# Altium schematic symbol library Common.SchLib: 103 symbols
Pins are listed as number, name and electrical type; pins without a type are passive.

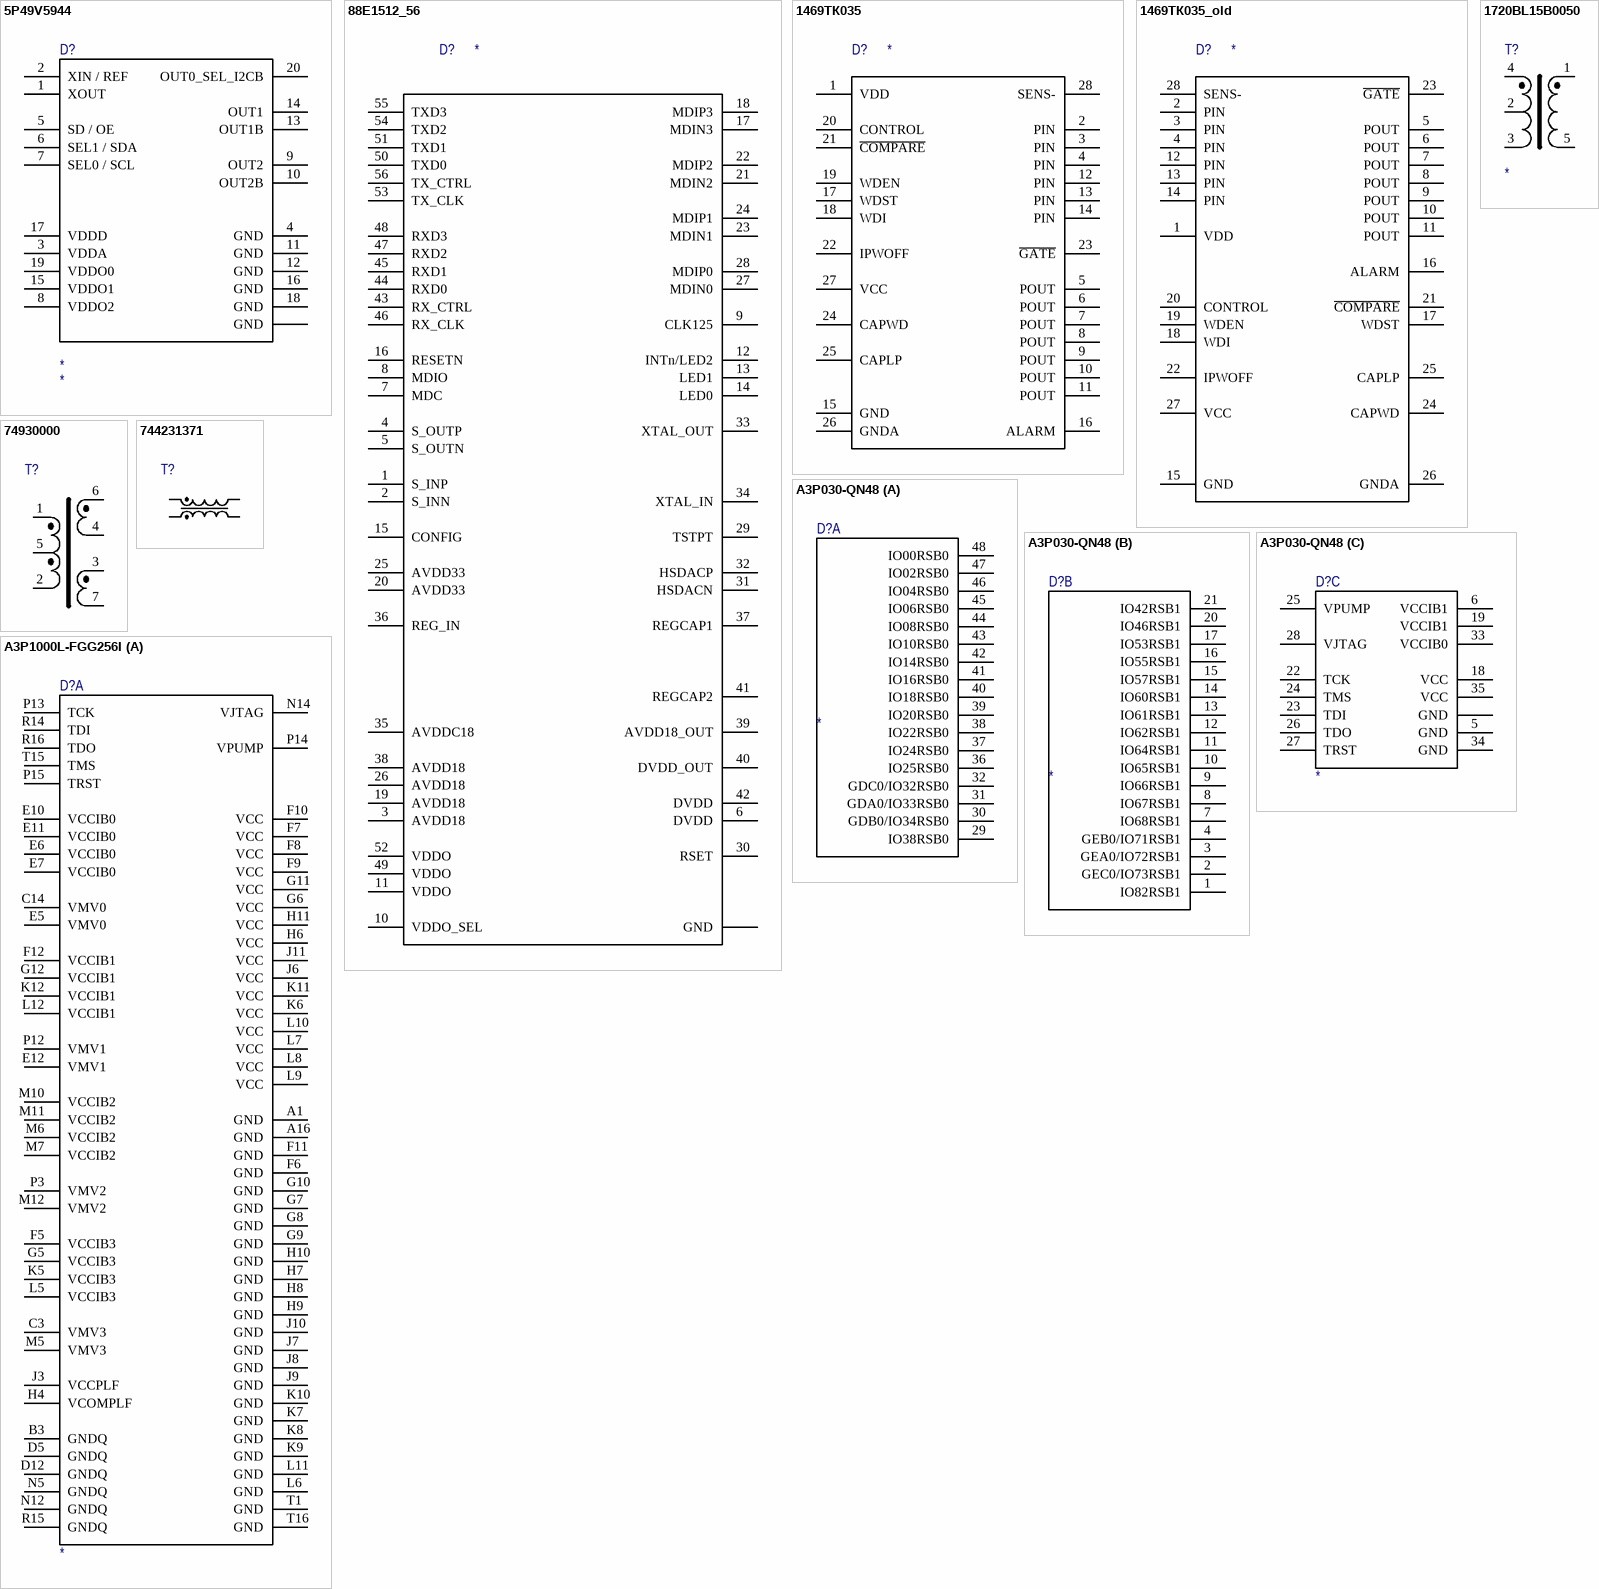
[diagram p0: symbols 5P49V5944 to A3P1000L-FGG256I]

## 5P49V5944
designator D?
Интегральная микросхема; Part Number: *; Manufacturer: *
footprint QFN-20-3x3
pins: 1 XOUT, 2 XIN / REF, 3 VDDA, 4 GND, 5 SD / OE, 6 SEL1 / SDA, 7 SEL0 / SCL, 8 VDDO2, 9 OUT2, 10 OUT2B, 11 GND, 12 GND, 13 OUT1B, 14 OUT1, 15 VDDO1, 16 GND, 17 VDDD, 18 GND, 19 VDDO0, 20 OUT0_SEL_I2CB, PAD GND

## 88E1512_56
designator D?
Интегральная микросхема; Manufacturer: *; Part Number: *
pins: 1 S_INP, 2 S_INN, 3 AVDD18, 4 S_OUTP, 5 S_OUTN, 6 DVDD, 7 MDC, 8 MDIO, 9 CLK125, 10 VDDO_SEL, 11 VDDO, 12 INTn/LED2, 13 LED1, 14 LED0, 15 CONFIG, 16 RESETN, 17 MDIN3, 18 MDIP3, 19 AVDD18, 20 AVDD33, 21 MDIN2, 22 MDIP2, 23 MDIN1, 24 MDIP1, 25 AVDD33, 26 AVDD18, 27 MDIN0, 28 MDIP0, 29 TSTPT, 30 RSET, 31 HSDACN, 32 HSDACP, 33 XTAL_OUT, 34 XTAL_IN, 35 AVDDC18, 36 REG_IN, 37 REGCAP1, 38 AVDD18, 39 AVDD18_OUT, 40 DVDD_OUT, 41 REGCAP2, 42 DVDD, 43 RX_CTRL, 44 RXD0, 45 RXD1, 46 RX_CLK, 47 RXD2, 48 RXD3, 49 VDDO, 50 TXD0, 51 TXD1, 52 VDDO, 53 TX_CLK, 54 TXD2, 55 TXD3, 56 TX_CTRL, PAD GND

## 1469ТК035
designator D?
Интегральная микросхема; Manufacturer: *; Part Number: *
pins: 1 VDD, 2 PIN, 3 PIN, 4 PIN, 5 POUT, 6 POUT, 7 POUT, 8 POUT, 9 POUT, 10 POUT, 11 POUT, 12 PIN, 13 PIN, 14 PIN, 15 GND, 16 ALARM, 17 WDST, 18 WDI, 19 WDEN, 20 CONTROL, 21 ~{COMPARE}, 22 IPWOFF, 23 ~{GATE}, 24 CAPWD, 25 CAPLP, 26 GNDA, 27 VCC, 28 SENS-

## 1469ТК035_old
designator D?
Интегральная микросхема; Manufacturer: *; Part Number: *
pins: 1 VDD, 2 PIN, 3 PIN, 4 PIN, 5 POUT, 6 POUT, 7 POUT, 8 POUT, 9 POUT, 10 POUT, 11 POUT, 12 PIN, 13 PIN, 14 PIN, 15 GND, 16 ALARM, 17 WDST, 18 WDI, 19 WDEN, 20 CONTROL, 21 ~{COMPARE}, 22 IPWOFF, 23 ~{GATE}, 24 CAPWD, 25 CAPLP, 26 GNDA, 27 VCC, 28 SENS-

## 1720BL15B0050
designator T?
Трансформатор согласующий, WE ethernet; Manufacturer: *; Part Number: *
pins: 1, 2, 3, 4, 5

## 74930000
designator T?  (value not drawn)
Трансформатор согласующий, WE ethernet; Part Number: *; Manufacturer: *
pins: 1, 2, 3, 4, 5, 6, 7

## 744231371
designator T?  (value not drawn)
Трансформатор-синфазный фильтр, WE; Part Number: *; Manufacturer: *
pins: 1, 2, 3, 4

## A3P030-QN48
designator D?
Интегральная микросхема; Manufacturer: *; Part Number: *
part A pins: 29 IO38RSB0, 30 GDB0/IO34RSB0, 31 GDA0/IO33RSB0, 32 GDC0/IO32RSB0, 36 IO25RSB0, 37 IO24RSB0, 38 IO22RSB0, 39 IO20RSB0, 40 IO18RSB0, 41 IO16RSB0, 42 IO14RSB0, 43 IO10RSB0, 44 IO08RSB0, 45 IO06RSB0, 46 IO04RSB0, 47 IO02RSB0, 48 IO00RSB0
part B pins: 1 IO82RSB1, 2 GEC0/IO73RSB1, 3 GEA0/IO72RSB1, 4 GEB0/IO71RSB1, 7 IO68RSB1, 8 IO67RSB1, 9 IO66RSB1, 10 IO65RSB1, 11 IO64RSB1, 12 IO62RSB1, 13 IO61RSB1, 14 IO60RSB1, 15 IO57RSB1, 16 IO55RSB1, 17 IO53RSB1, 20 IO46RSB1, 21 IO42RSB1
part C pins: 5 GND, 6 VCCIB1, 18 VCC, 19 VCCIB1, 22 TCK, 23 TDI, 24 TMS, 25 VPUMP, 26 TDO, 27 TRST, 28 VJTAG, 33 VCCIB0, 34 GND, 35 VCC, PAD GND

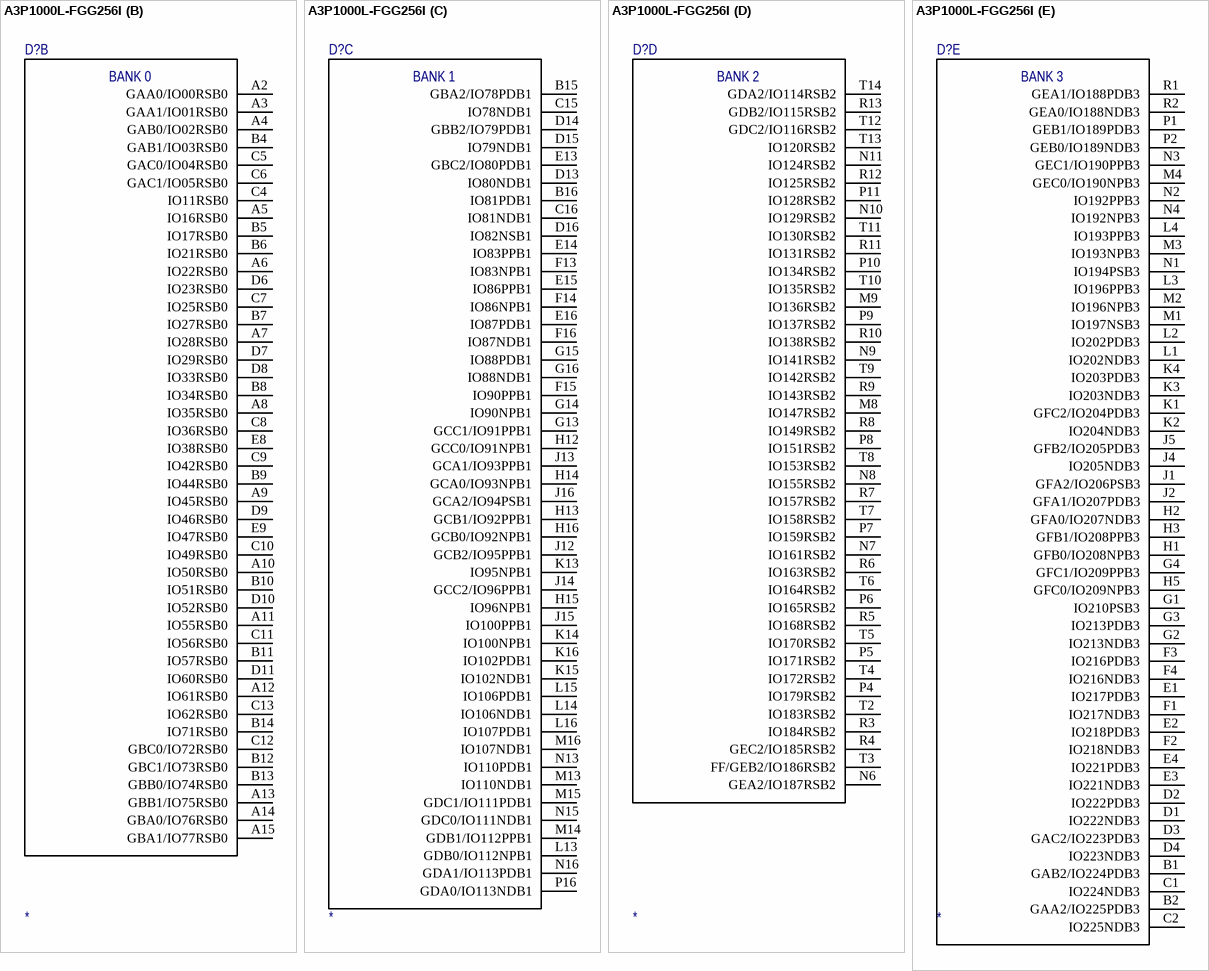
[diagram p1: symbol A3P1000L-FGG256I]

## A3P1000L-FGG256I
designator D?
Интегральная микросхема (ПЛИС); Manufacturer: *; Part Number: *
part A pins: A1 GND, A16 GND, B3 GNDQ, C3 VMV3, C14 VMV0, D5 GNDQ, D12 GNDQ, E5 VMV0, E6 VCCIB0, E7 VCCIB0, E10 VCCIB0, E11 VCCIB0, E12 VMV1, F5 VCCIB3, F6 GND, F7 VCC, F8 VCC, F9 VCC, F10 VCC, F11 GND, F12 VCCIB1, G5 VCCIB3, G6 VCC, G7 GND, G8 GND, G9 GND, G10 GND, G11 VCC, G12 VCCIB1, H4 VCOMPLF, H6 VCC, H7 GND, H8 GND, H9 GND, H10 GND, H11 VCC, J3 VCCPLF, J6 VCC, J7 GND, J8 GND, J9 GND, J10 GND, J11 VCC, K5 VCCIB3, K6 VCC, K7 GND, K8 GND, K9 GND, K10 GND, K11 VCC, K12 VCCIB1, L5 VCCIB3, L6 GND, L7 VCC, L8 VCC, L9 VCC, L10 VCC, L11 GND, L12 VCCIB1, M5 VMV3, M6 VCCIB2, M7 VCCIB2, M10 VCCIB2, M11 VCCIB2, M12 VMV2, N5 GNDQ, N12 GNDQ, N14 VJTAG, P3 VMV2, P12 VMV1, P13 TCK, P14 VPUMP, P15 TRST, R14 TDI, R15 GNDQ, R16 TDO, T1 GND, T15 TMS, T16 GND
part B pins: A2 GAA0/IO00RSB0, A3 GAA1/IO01RSB0, A4 GAB0/IO02RSB0, A5 IO16RSB0, A6 IO22RSB0, A7 IO28RSB0, A8 IO35RSB0, A9 IO45RSB0, A10 IO50RSB0, A11 IO55RSB0, A12 IO61RSB0, A13 GBB1/IO75RSB0, A14 GBA0/IO76RSB0, A15 GBA1/IO77RSB0, B4 GAB1/IO03RSB0, B5 IO17RSB0, B6 IO21RSB0, B7 IO27RSB0, B8 IO34RSB0, B9 IO44RSB0, B10 IO51RSB0, B11 IO57RSB0, B12 GBC1/IO73RSB0, B13 GBB0/IO74RSB0, B14 IO71RSB0, C4 IO11RSB0, C5 GAC0/IO04RSB0, C6 GAC1/IO05RSB0, C7 IO25RSB0, C8 IO36RSB0, C9 IO42RSB0, C10 IO49RSB0, C11 IO56RSB0, C12 GBC0/IO72RSB0, C13 IO62RSB0, D6 IO23RSB0, D7 IO29RSB0, D8 IO33RSB0, D9 IO46RSB0, D10 IO52RSB0, D11 IO60RSB0, E8 IO38RSB0, E9 IO47RSB0
part C pins: B15 GBA2/IO78PDB1, B16 IO81PDB1, C15 IO78NDB1, C16 IO81NDB1, D13 IO80NDB1, D14 GBB2/IO79PDB1, D15 IO79NDB1, D16 IO82NSB1, E13 GBC2/IO80PDB1, E14 IO83PPB1, E15 IO86PPB1, E16 IO87PDB1, F13 IO83NPB1, F14 IO86NPB1, F15 IO90PPB1, F16 IO87NDB1, G13 GCC1/IO91PPB1, G14 IO90NPB1, G15 IO88PDB1, G16 IO88NDB1, H12 GCC0/IO91NPB1, H13 GCB1/IO92PPB1, H14 GCA0/IO93NPB1, H15 IO96NPB1, H16 GCB0/IO92NPB1, J12 GCB2/IO95PPB1, J13 GCA1/IO93PPB1, J14 GCC2/IO96PPB1, J15 IO100PPB1, J16 GCA2/IO94PSB1, K13 IO95NPB1, K14 IO100NPB1, K15 IO102NDB1, K16 IO102PDB1, L13 GDB0/IO112NPB1, L14 IO106NDB1, L15 IO106PDB1, L16 IO107PDB1, M13 IO110NDB1, M14 GDB1/IO112PPB1, M15 GDC1/IO111PDB1, M16 IO107NDB1, N13 IO110PDB1, N15 GDC0/IO111NDB1, N16 GDA1/IO113PDB1, P16 GDA0/IO113NDB1
part D pins: M8 IO147RSB2, M9 IO136RSB2, N6 GEA2/IO187RSB2, N7 IO161RSB2, N8 IO155RSB2, N9 IO141RSB2, N10 IO129RSB2, N11 IO124RSB2, P4 IO179RSB2, P5 IO171RSB2, P6 IO165RSB2, P7 IO159RSB2, P8 IO151RSB2, P9 IO137RSB2, P10 IO134RSB2, P11 IO128RSB2, R3 IO184RSB2, R4 GEC2/IO185RSB2, R5 IO168RSB2, R6 IO163RSB2, R7 IO157RSB2, R8 IO149RSB2, R9 IO143RSB2, R10 IO138RSB2, R11 IO131RSB2, R12 IO125RSB2, R13 GDB2/IO115RSB2, T2 IO183RSB2, T3 FF/GEB2/IO186RSB2, T4 IO172RSB2, T5 IO170RSB2, T6 IO164RSB2, T7 IO158RSB2, T8 IO153RSB2, T9 IO142RSB2, T10 IO135RSB2, T11 IO130RSB2, T12 GDC2/IO116RSB2, T13 IO120RSB2, T14 GDA2/IO114RSB2
part E pins: B1 GAB2/IO224PDB3, B2 GAA2/IO225PDB3, C1 IO224NDB3, C2 IO225NDB3, D1 IO222NDB3, D2 IO222PDB3, D3 GAC2/IO223PDB3, D4 IO223NDB3, E1 IO217PDB3, E2 IO218PDB3, E3 IO221NDB3, E4 IO221PDB3, F1 IO217NDB3, F2 IO218NDB3, F3 IO216PDB3, F4 IO216NDB3, G1 IO210PSB3, G2 IO213NDB3, G3 IO213PDB3, G4 GFC1/IO209PPB3, H1 GFB0/IO208NPB3, H2 GFA0/IO207NDB3, H3 GFB1/IO208PPB3, H5 GFC0/IO209NPB3, J1 GFA2/IO206PSB3, J2 GFA1/IO207PDB3, J4 IO205NDB3, J5 GFB2/IO205PDB3, K1 GFC2/IO204PDB3, K2 IO204NDB3, K3 IO203NDB3, K4 IO203PDB3, L1 IO202NDB3, L2 IO202PDB3, L3 IO196PPB3, L4 IO193PPB3, M1 IO197NSB3, M2 IO196NPB3, M3 IO193NPB3, M4 GEC0/IO190NPB3, N1 IO194PSB3, N2 IO192PPB3, N3 GEC1/IO190PPB3, N4 IO192NPB3, P1 GEB1/IO189PDB3, P2 GEB0/IO189NDB3, R1 GEA1/IO188PDB3, R2 GEA0/IO188NDB3
part B text: BANK 0
part C text: BANK 1
part D text: BANK 2
part E text: BANK 3

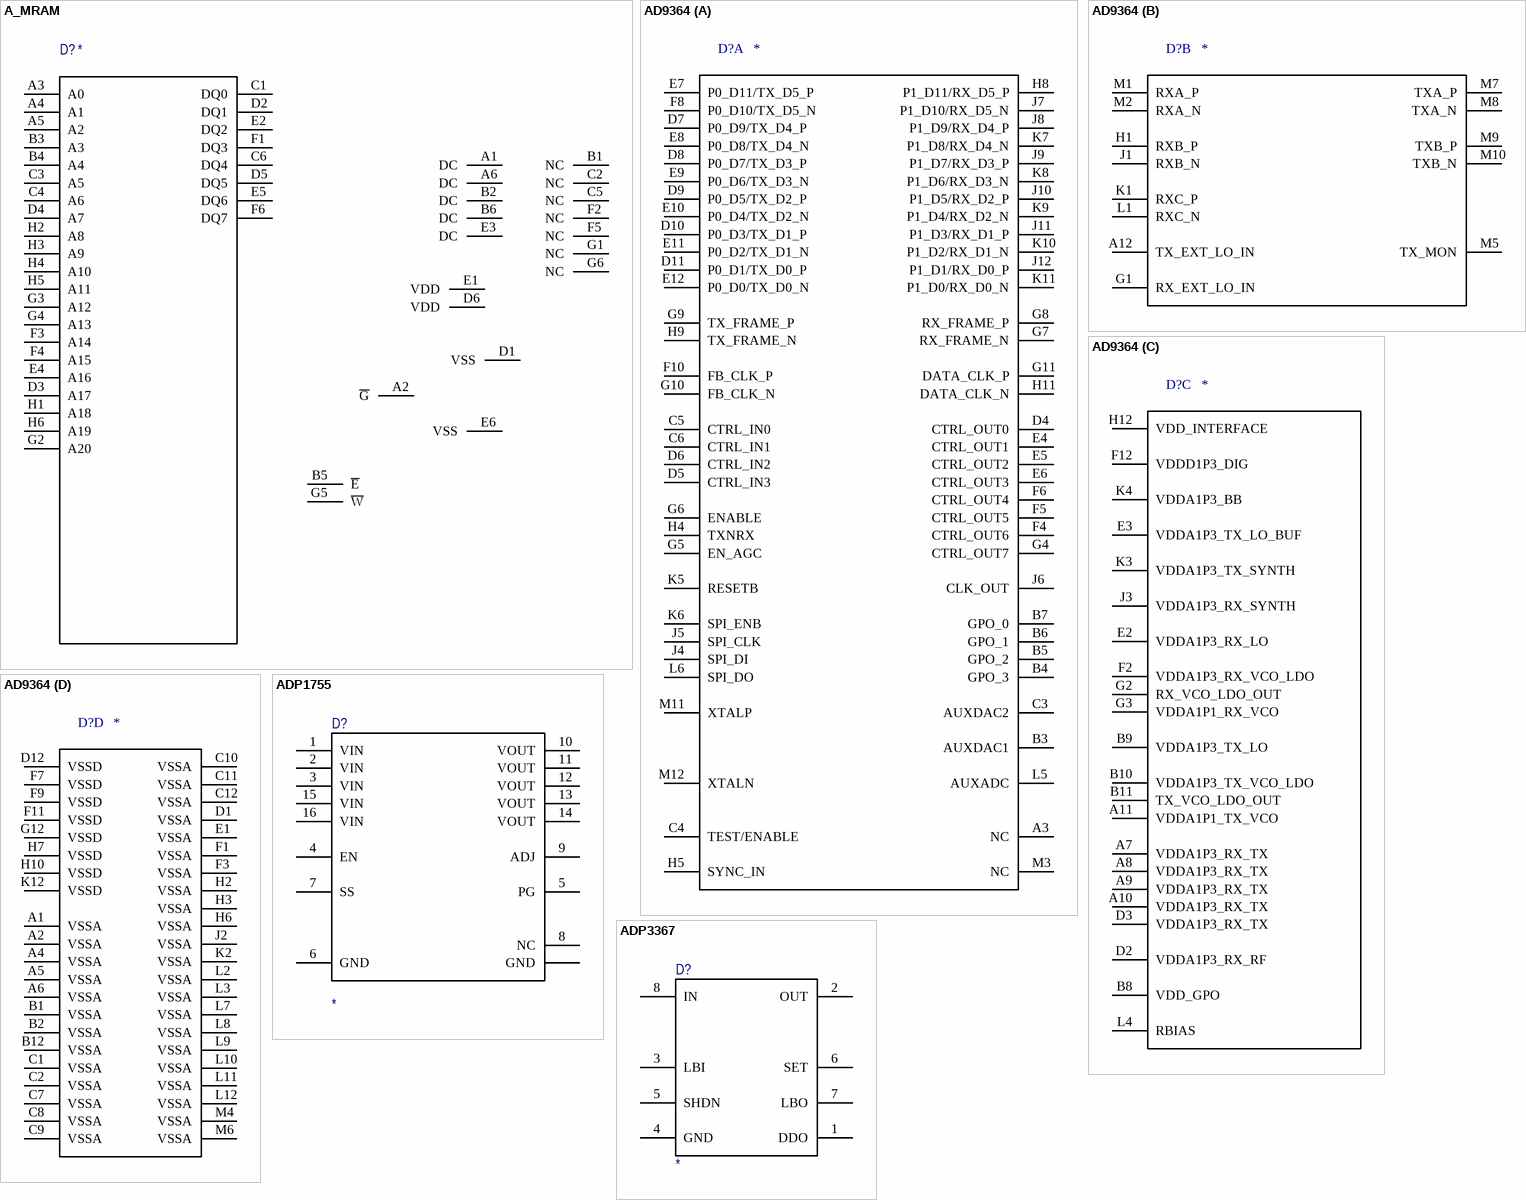
[diagram p2: symbols A_MRAM to ADP3367]

## A_MRAM
designator D?
Конденсатор; Manufacturer: *; Part Number: *
pins: A1 DC, A2 ~{G}, A3 A0, A4 A1, A5 A2, A6 DC, B1 NC, B2 DC, B3 A3, B4 A4, B5 ~{E}, B6 DC, C1 DQ0, C2 NC, C3 A5, C4 A6, C5 NC, C6 DQ4, D1 VSS, D2 DQ1, D3 A17, D4 A7, D5 DQ5, D6 VDD, E1 VDD, E2 DQ2, E3 DC, E4 A16, E5 DQ6, E6 VSS, F1 DQ3, F2 NC, F3 A14, F4 A15, F5 NC, F6 DQ7, G1 NC, G2 A20, G3 A12, G4 A13, G5 ~{W}, G6 NC, H1 A18, H2 A8, H3 A9, H4 A10, H5 A11, H6 A19

## AD9364
designator D?
part A pins: A3 NC, B3 AUXDAC1, B4 GPO_3, B5 GPO_2, B6 GPO_1, B7 GPO_0, C3 AUXDAC2, C4 TEST/ENABLE, C5 CTRL_IN0, C6 CTRL_IN1, D4 CTRL_OUT0, D5 CTRL_IN3, D6 CTRL_IN2, D7 P0_D9/TX_D4_P, D8 P0_D7/TX_D3_P, D9 P0_D5/TX_D2_P, D10 P0_D3/TX_D1_P, D11 P0_D1/TX_D0_P, E4 CTRL_OUT1, E5 CTRL_OUT2, E6 CTRL_OUT3, E7 P0_D11/TX_D5_P, E8 P0_D8/TX_D4_N, E9 P0_D6/TX_D3_N, E10 P0_D4/TX_D2_N, E11 P0_D2/TX_D1_N, E12 P0_D0/TX_D0_N, F4 CTRL_OUT6, F5 CTRL_OUT5, F6 CTRL_OUT4, F8 P0_D10/TX_D5_N, F10 FB_CLK_P, G4 CTRL_OUT7, G5 EN_AGC, G6 ENABLE, G7 RX_FRAME_N, G8 RX_FRAME_P, G9 TX_FRAME_P, G10 FB_CLK_N, G11 DATA_CLK_P, H4 TXNRX, H5 SYNC_IN, H8 P1_D11/RX_D5_P, H9 TX_FRAME_N, H11 DATA_CLK_N, J4 SPI_DI, J5 SPI_CLK, J6 CLK_OUT, J7 P1_D10/RX_D5_N, J8 P1_D9/RX_D4_P, J9 P1_D7/RX_D3_P, J10 P1_D5/RX_D2_P, J11 P1_D3/RX_D1_P, J12 P1_D1/RX_D0_P, K5 RESETB, K6 SPI_ENB, K7 P1_D8/RX_D4_N, K8 P1_D6/RX_D3_N, K9 P1_D4/RX_D2_N, K10 P1_D2/RX_D1_N, K11 P1_D0/RX_D0_N, L5 AUXADC, L6 SPI_DO, M3 NC, M11 XTALP, M12 XTALN
part B pins: A12 TX_EXT_LO_IN, G1 RX_EXT_LO_IN, H1 RXB_P, J1 RXB_N, K1 RXC_P, L1 RXC_N, M1 RXA_P, M2 RXA_N, M5 TX_MON, M7 TXA_P, M8 TXA_N, M9 TXB_P, M10 TXB_N
part C pins: A7 VDDA1P3_RX_TX, A8 VDDA1P3_RX_TX, A9 VDDA1P3_RX_TX, A10 VDDA1P3_RX_TX, A11 VDDA1P1_TX_VCO, B8 VDD_GPO, B9 VDDA1P3_TX_LO, B10 VDDA1P3_TX_VCO_LDO, B11 TX_VCO_LDO_OUT, D2 VDDA1P3_RX_RF, D3 VDDA1P3_RX_TX, E2 VDDA1P3_RX_LO, E3 VDDA1P3_TX_LO_BUF, F2 VDDA1P3_RX_VCO_LDO, F12 VDDD1P3_DIG, G2 RX_VCO_LDO_OUT, G3 VDDA1P1_RX_VCO, H12 VDD_INTERFACE, J3 VDDA1P3_RX_SYNTH, K3 VDDA1P3_TX_SYNTH, K4 VDDA1P3_BB, L4 RBIAS
part D pins: A1 VSSA, A2 VSSA, A4 VSSA, A5 VSSA, A6 VSSA, B1 VSSA, B2 VSSA, B12 VSSA, C1 VSSA, C2 VSSA, C7 VSSA, C8 VSSA, C9 VSSA, C10 VSSA, C11 VSSA, C12 VSSA, D1 VSSA, D12 VSSD, E1 VSSA, F1 VSSA, F3 VSSA, F7 VSSD, F9 VSSD, F11 VSSD, G12 VSSD, H2 VSSA, H3 VSSA, H6 VSSA, H7 VSSD, H10 VSSD, J2 VSSA, K2 VSSA, K12 VSSD, L2 VSSA, L3 VSSA, L7 VSSA, L8 VSSA, L9 VSSA, L10 VSSA, L11 VSSA, L12 VSSA, M4 VSSA, M6 VSSA

## ADP1755
designator D?
Интегральная микросхема; Manufacturer: *; Part Number: *
footprint QFN-20-3x3
pins: 1 VIN, 2 VIN, 3 VIN, 4 EN, 5 PG, 6 GND, 7 SS, 8 NC, 9 ADJ, 10 VOUT, 11 VOUT, 12 VOUT, 13 VOUT, 14 VOUT, 15 VIN, 16 VIN, PAD GND

## ADP3367
designator D?
Интегральная микросхема; Manufacturer: *; Part Number: *
pins: 1 DDO, 2 OUT, 3 LBI, 4 GND, 5 SHDN, 6 SET, 7 LBO, 8 IN

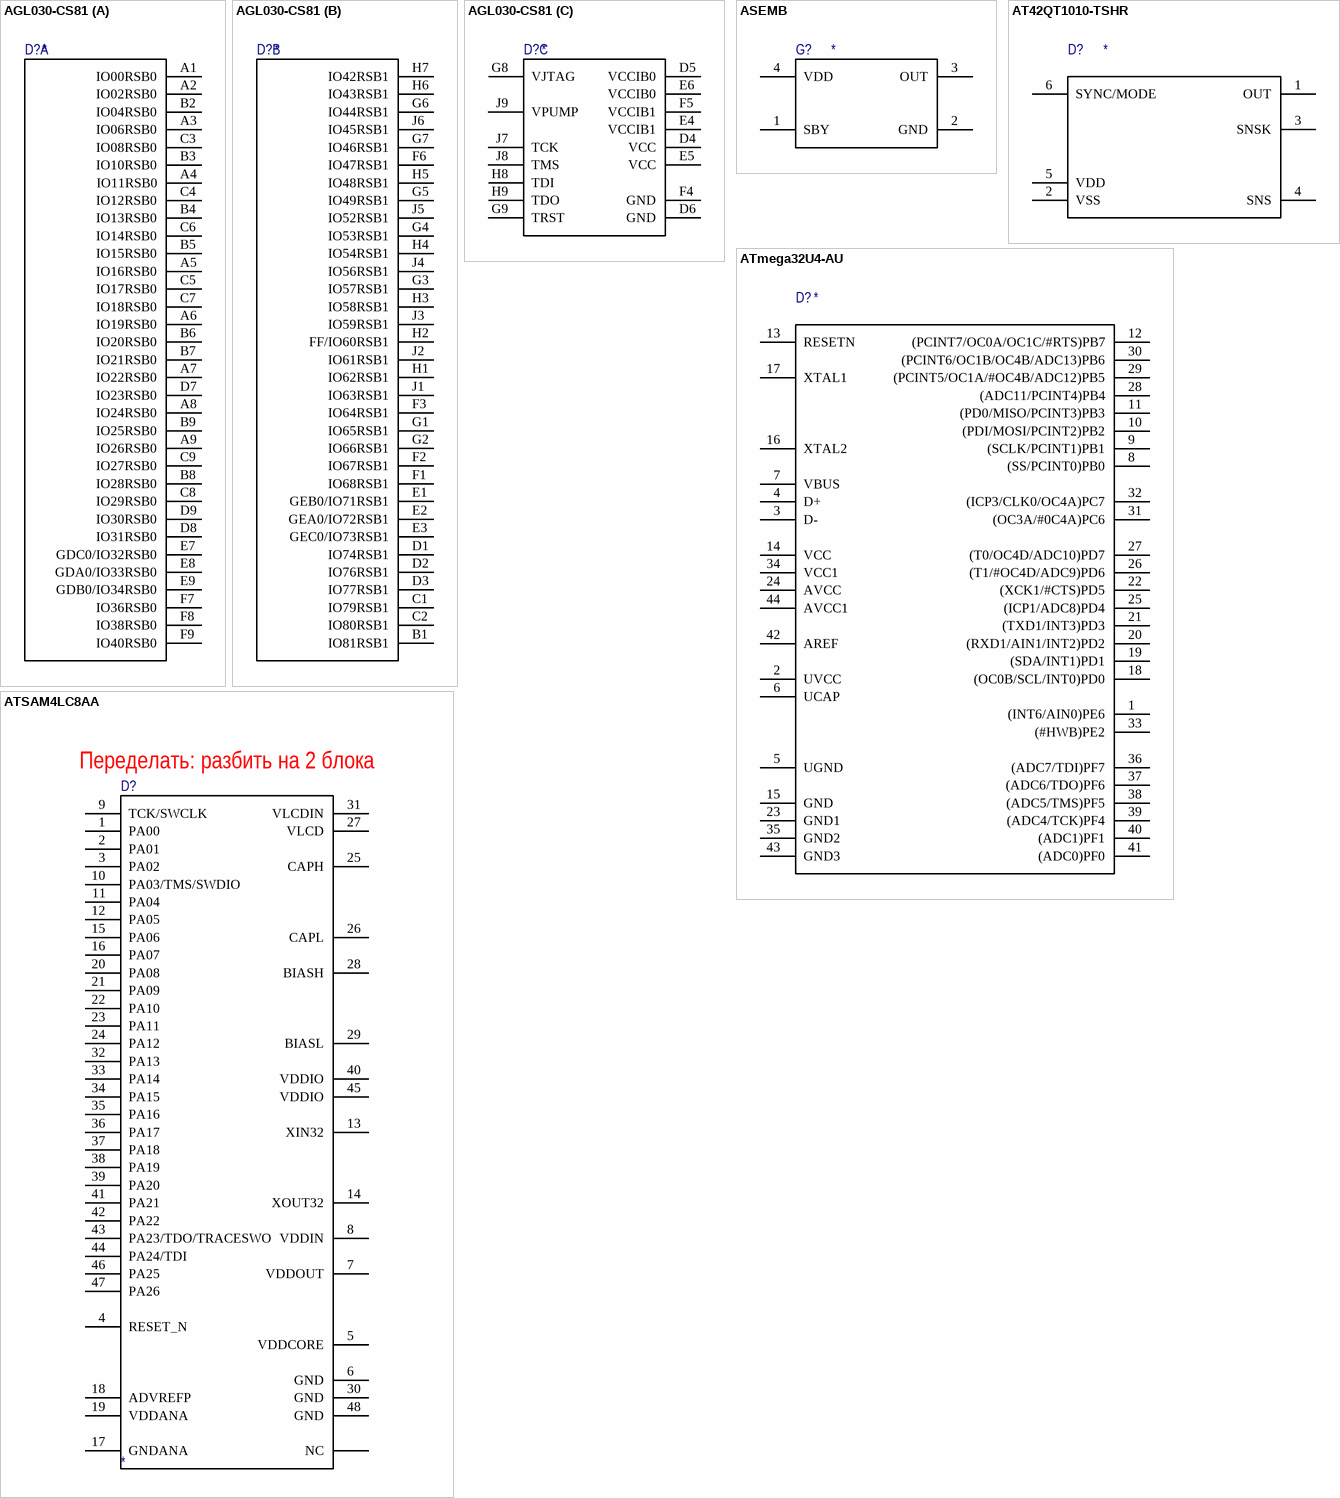
[diagram p3: symbols AGL030-CS81 to ATSAM4LC8AA]

## AGL030-CS81
designator D?
Интегральная микросхема; Manufacturer: *; Part Number: *
part A pins: A1 IO00RSB0, A2 IO02RSB0, A3 IO06RSB0, A4 IO11RSB0, A5 IO16RSB0, A6 IO19RSB0, A7 IO22RSB0, A8 IO24RSB0, A9 IO26RSB0, B2 IO04RSB0, B3 IO10RSB0, B4 IO13RSB0, B5 IO15RSB0, B6 IO20RSB0, B7 IO21RSB0, B8 IO28RSB0, B9 IO25RSB0, C3 IO08RSB0, C4 IO12RSB0, C5 IO17RSB0, C6 IO14RSB0, C7 IO18RSB0, C8 IO29RSB0, C9 IO27RSB0, D7 IO23RSB0, D8 IO31RSB0, D9 IO30RSB0, E7 GDC0/IO32RSB0, E8 GDA0/IO33RSB0, E9 GDB0/IO34RSB0, F7 IO36RSB0, F8 IO38RSB0, F9 IO40RSB0
part B pins: B1 IO81RSB1, C1 IO79RSB1, C2 IO80RSB1, D1 IO74RSB1, D2 IO76RSB1, D3 IO77RSB1, E1 GEB0/IO71RSB1, E2 GEA0/IO72RSB1, E3 GEC0/IO73RSB1, F1 IO68RSB1, F2 IO67RSB1, F3 IO64RSB1, F6 IO47RSB1, G1 IO65RSB1, G2 IO66RSB1, G3 IO57RSB1, G4 IO53RSB1, G5 IO49RSB1, G6 IO44RSB1, G7 IO46RSB1, H1 IO62RSB1, H2 FF/IO60RSB1, H3 IO58RSB1, H4 IO54RSB1, H5 IO48RSB1, H6 IO43RSB1, H7 IO42RSB1, J1 IO63RSB1, J2 IO61RSB1, J3 IO59RSB1, J4 IO56RSB1, J5 IO52RSB1, J6 IO45RSB1
part C pins: D4 VCC, D5 VCCIB0, D6 GND, E4 VCCIB1, E5 VCC, E6 VCCIB0, F4 GND, F5 VCCIB1, G8 VJTAG, G9 TRST, H8 TDI, H9 TDO, J7 TCK, J8 TMS, J9 VPUMP

## ASEMB
designator G?
Manufacturer: *; Part Number: *
pins: 1 SBY, 2 GND, 3 OUT, 4 VDD

## AT42QT1010-TSHR
designator D?
Интегральная микросхема; Manufacturer: *; Part Number: *
pins: 1 OUT, 2 VSS, 3 SNSK, 4 SNS, 5 VDD, 6 SYNC/MODE

## ATmega32U4-AU
designator D?
Интегральная микросхема; Manufacturer: *; Part Number: *
pins: 1 (INT6/AIN0)PE6, 2 UVCC, 3 D-, 4 D+, 5 UGND, 6 UCAP, 7 VBUS, 8 (SS/PCINT0)PB0, 9 (SCLK/PCINT1)PB1, 10 (PDI/MOSI/PCINT2)PB2, 11 (PD0/MISO/PCINT3)PB3, 12 (PCINT7/OC0A/OC1C/#RTS)PB7, 13 RESETN, 14 VCC, 15 GND, 16 XTAL2, 17 XTAL1, 18 (OC0B/SCL/INT0)PD0, 19 (SDA/INT1)PD1, 20 (RXD1/AIN1/INT2)PD2, 21 (TXD1/INT3)PD3, 22 (XCK1/#CTS)PD5, 23 GND1, 24 AVCC, 25 (ICP1/ADC8)PD4, 26 (T1/#OC4D/ADC9)PD6, 27 (T0/OC4D/ADC10)PD7, 28 (ADC11/PCINT4)PB4, 29 (PCINT5/OC1A/#OC4B/ADC12)PB5, 30 (PCINT6/OC1B/OC4B/ADC13)PB6, 31 (OC3A/#0C4A)PC6, 32 (ICP3/CLK0/OC4A)PC7, 33 (#HWB)PE2, 34 VCC1, 35 GND2, 36 (ADC7/TDI)PF7, 37 (ADC6/TDO)PF6, 38 (ADC5/TMS)PF5, 39 (ADC4/TCK)PF4, 40 (ADC1)PF1, 41 (ADC0)PF0, 42 AREF, 43 GND3, 44 AVCC1

## ATSAM4LC8AA
designator D?
Интегральная микросхема; Manufacturer: *; Part Number: *
pins: 1 PA00, 2 PA01, 3 PA02, 4 RESET_N, 5 VDDCORE, 6 GND, 7 VDDOUT, 8 VDDIN, 9 TCK/SWCLK, 10 PA03/TMS/SWDIO, 11 PA04, 12 PA05, 13 XIN32, 14 XOUT32, 15 PA06, 16 PA07, 17 GNDANA, 18 ADVREFP, 19 VDDANA, 20 PA08, 21 PA09, 22 PA10, 23 PA11, 24 PA12, 25 CAPH, 26 CAPL, 27 VLCD, 28 BIASH, 29 BIASL, 30 GND, 31 VLCDIN, 32 PA13, 33 PA14, 34 PA15, 35 PA16, 36 PA17, 37 PA18, 38 PA19, 39 PA20, 40 VDDIO, 41 PA21, 42 PA22, 43 PA23/TDO/TRACESWO, 44 PA24/TDI, 45 VDDIO, 46 PA25, 47 PA26, 48 GND, PAD NC
text: Переделать: разбить на 2 блока

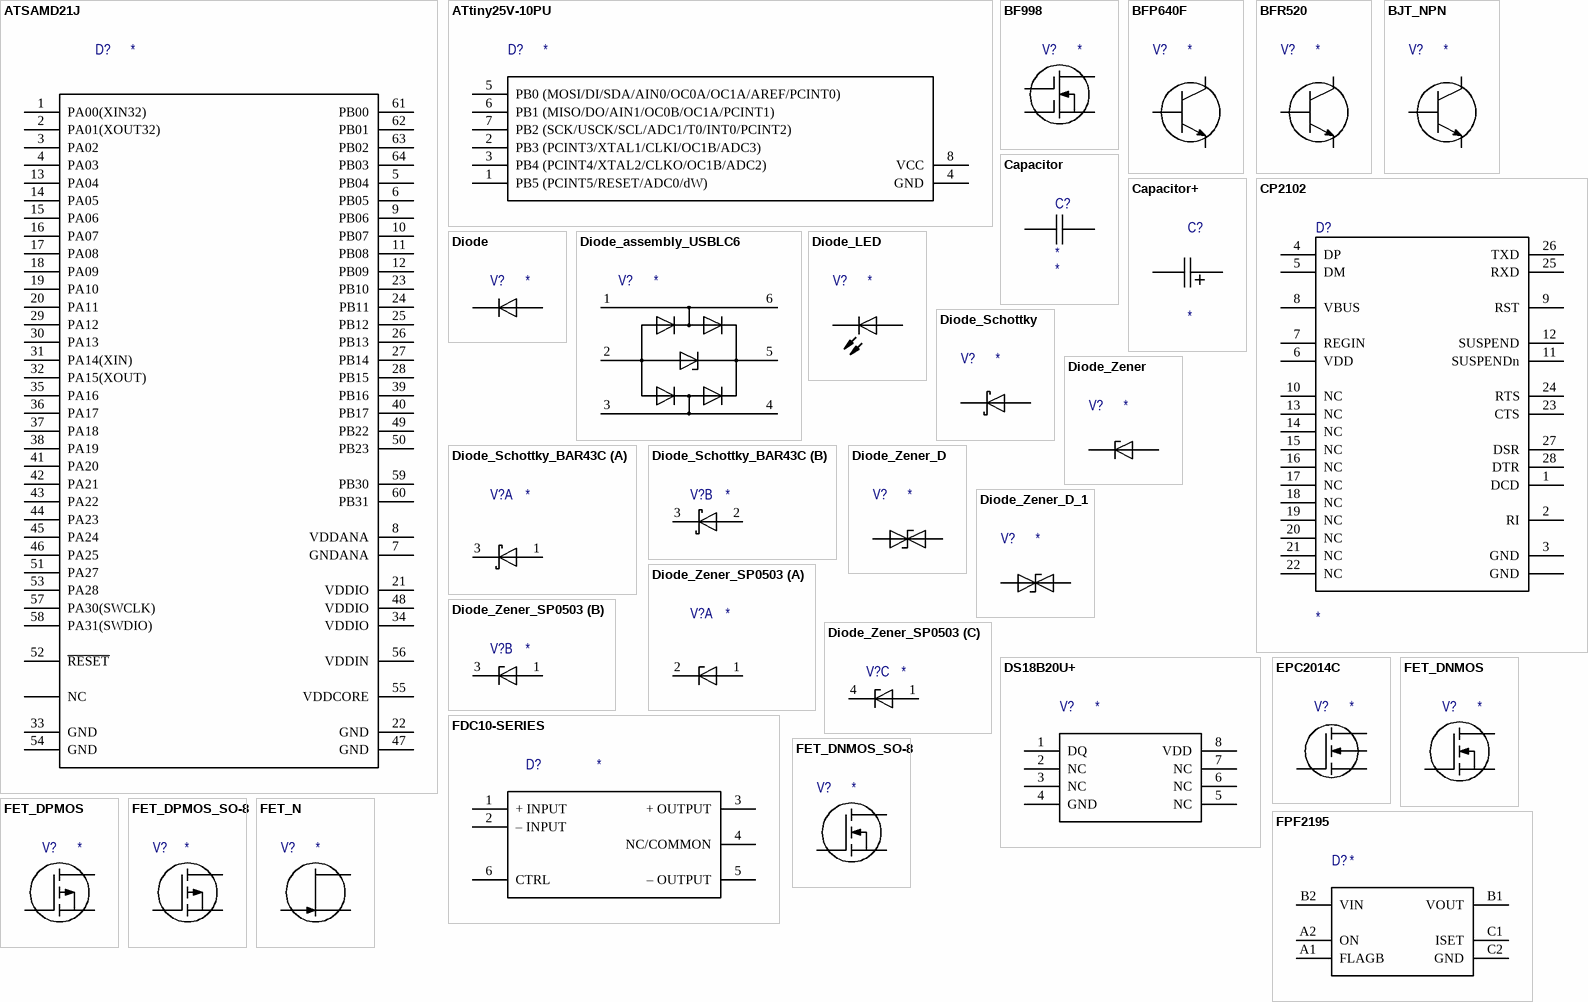
[diagram p4: symbols ATSAMD21J to FPF2195]

## ATSAMD21J
designator D?
Интегральная микросхема; Manufacturer: *; Part Number: *
pins: 1 PA00(XIN32), 2 PA01(XOUT32), 3 PA02, 4 PA03, 5 PB04, 6 PB05, 7 GNDANA, 8 VDDANA, 9 PB06, 10 PB07, 11 PB08, 12 PB09, 13 PA04, 14 PA05, 15 PA06, 16 PA07, 17 PA08, 18 PA09, 19 PA10, 20 PA11, 21 VDDIO, 22 GND, 23 PB10, 24 PB11, 25 PB12, 26 PB13, 27 PB14, 28 PB15, 29 PA12, 30 PA13, 31 PA14(XIN), 32 PA15(XOUT), 33 GND, 34 VDDIO, 35 PA16, 36 PA17, 37 PA18, 38 PA19, 39 PB16, 40 PB17, 41 PA20, 42 PA21, 43 PA22, 44 PA23, 45 PA24, 46 PA25, 47 GND, 48 VDDIO, 49 PB22, 50 PB23, 51 PA27, 52 ~{RESET}, 53 PA28, 54 GND, 55 VDDCORE, 56 VDDIN, 57 PA30(SWCLK), 58 PA31(SWDIO), 59 PB30, 60 PB31, 61 PB00, 62 PB01, 63 PB02, 64 PB03, PAD NC

## ATtiny25V-10PU
designator D?
Интегральная микросхема; Manufacturer: *; Part Number: *
pins: 1 PB5 (PCINT5/RESET/ADC0/dW), 2 PB3 (PCINT3/XTAL1/CLKI/OC1B/ADC3), 3 PB4 (PCINT4/XTAL2/CLKO/OC1B/ADC2), 4 GND, 5 PB0 (MOSI/DI/SDA/AIN0/OC0A/OC1A/AREF/PCINT0), 6 PB1 (MISO/DO/AIN1/OC0B/OC1A/PCINT1), 7 PB2 (SCK/USCK/SCL/ADC1/T0/INT0/PCINT2), 8 VCC

## BF998
designator V?
Транзистор полевой; Manufacturer: *; Part Number: *
pins: 1 S, 2 D, 3 G2, 4 G1

## BFP640F
designator V?
Транзистор биполярый NPN; Manufacturer: *; Part Number: *
pins: 1 B, 2 E, 3 C, 4 E

## BFR520
designator V?
Транзистор биполярый NPN; Manufacturer: *; Part Number: *
pins: 1 B, 2 E, 3 C

## BJT_NPN
designator V?
Транзистор биполярый NPN; Manufacturer: *; Part Number: *
pins: B, C, E

## Capacitor
designator C?
Конденсатор; Part Number: *; Manufacturer: *; Temperature: *; Tolerance: *; Value: *; Voltage: *
pins: 1, 2

## Capacitor+
designator C?
Конденсатор; Part Number: *; Manufacturer: *; Value: *
pins: N, P
text: +

## CP2102
designator D?
Интегральная микросхема; Manufacturer: *; Part Number: *
pins: 1 DCD, 2 RI, 3 GND, 4 DP, 5 DM, 6 VDD, 7 REGIN, 8 VBUS, 9 RST, 10 NC, 11 SUSPENDn, 12 SUSPEND, 13 NC, 14 NC, 15 NC, 16 NC, 17 NC, 18 NC, 19 NC, 20 NC, 21 NC, 22 NC, 23 CTS, 24 RTS, 25 RXD, 26 TXD, 27 DSR, 28 DTR, PAD GND

## Diode
designator V?
Диод; Manufacturer: *; Part Number: *
pins: A, C

## Diode_assembly_USBLC6
designator V?
ESD защита USB; Manufacturer: *; Part Number: *
pins: 1, 2, 3, 4, 5, 6

## Diode_LED
designator V?
Диод светоизлучающий; Manufacturer: *; Part Number: *
pins: A, C

## Diode_Schottky
designator V?
Диод Шоттки; Manufacturer: *; Part Number: *
pins: A, C

## Diode_Schottky_BAR43C
designator V?
Диод Шоттки, 2 в 1; Manufacturer: *; Part Number: *
part A pins: 1, 3
part B pins: 2, 3

## Diode_Zener
designator V?
Диод лавинный выпрямительный (стабилитрон); Manufacturer: *; Part Number: *
pins: A, C

## Diode_Zener_D
designator V?
Диод Зенера двухсторонний (стабилитрон); Manufacturer: *; Part Number: *
pins: 1, 2

## Diode_Zener_D_1
designator V?
Диод Зенера двухсторонний (стабилитрон); Manufacturer: *; Part Number: *
pins: 1, 2

## Diode_Zener_SP0503
designator V?
Диод лавинный выпрямительный (стабилитрон), 3 в 1; Manufacturer: *; Part Number: *
part A pins: 1, 2
part B pins: 1, 3
part C pins: 1, 4

## DS18B20U+
designator V?
ESD защита USB; Manufacturer: *; Part Number: *
pins: 1 DQ, 2 NC, 3 NC, 4 GND, 5 NC, 6 NC, 7 NC, 8 VDD

## EPC2014C
designator V?
Транзистор полевой; Manufacturer: *; Part Number: *
pins: B, D, G, S

## FDC10-SERIES
designator D?
Manufacturer: *; Part Number: *
footprint QFN-20-3x3
pins: 1 + INPUT, 2 – INPUT, 3 + OUTPUT, 4 NC/COMMON, 5 – OUTPUT, 6 CTRL

## FET_DNMOS
designator V?
Транзистор полевой; Manufacturer: *; Part Number: *
pins: D, G, S

## FET_DNMOS_SO-8
designator V?
Транзистор полевой; Manufacturer: *; Part Number: *
pins: 1 G, 2 S, 3 S, 4 S, 5 D, 6 D, 7 D, 8 D

## FET_DPMOS
designator V?
Транзистор полевой; Manufacturer: *; Part Number: *
pins: D, G, S

## FET_DPMOS_SO-8
designator V?
Транзистор полевой; Manufacturer: *; Part Number: *
pins: 1 G, 2 S, 3 S, 4 S, 5 D, 6 D, 7 D, 8 D

## FET_N
designator V?
Транзистор полевой; Manufacturer: *; Part Number: *
pins: D, G, S

## FPF2195
designator D?
Интегральная микросхема; Manufacturer: *; Part Number: *
pins: A1 FLAGB, A2 ON, B1 VOUT, B2 VIN, C1 ISET, C2 GND

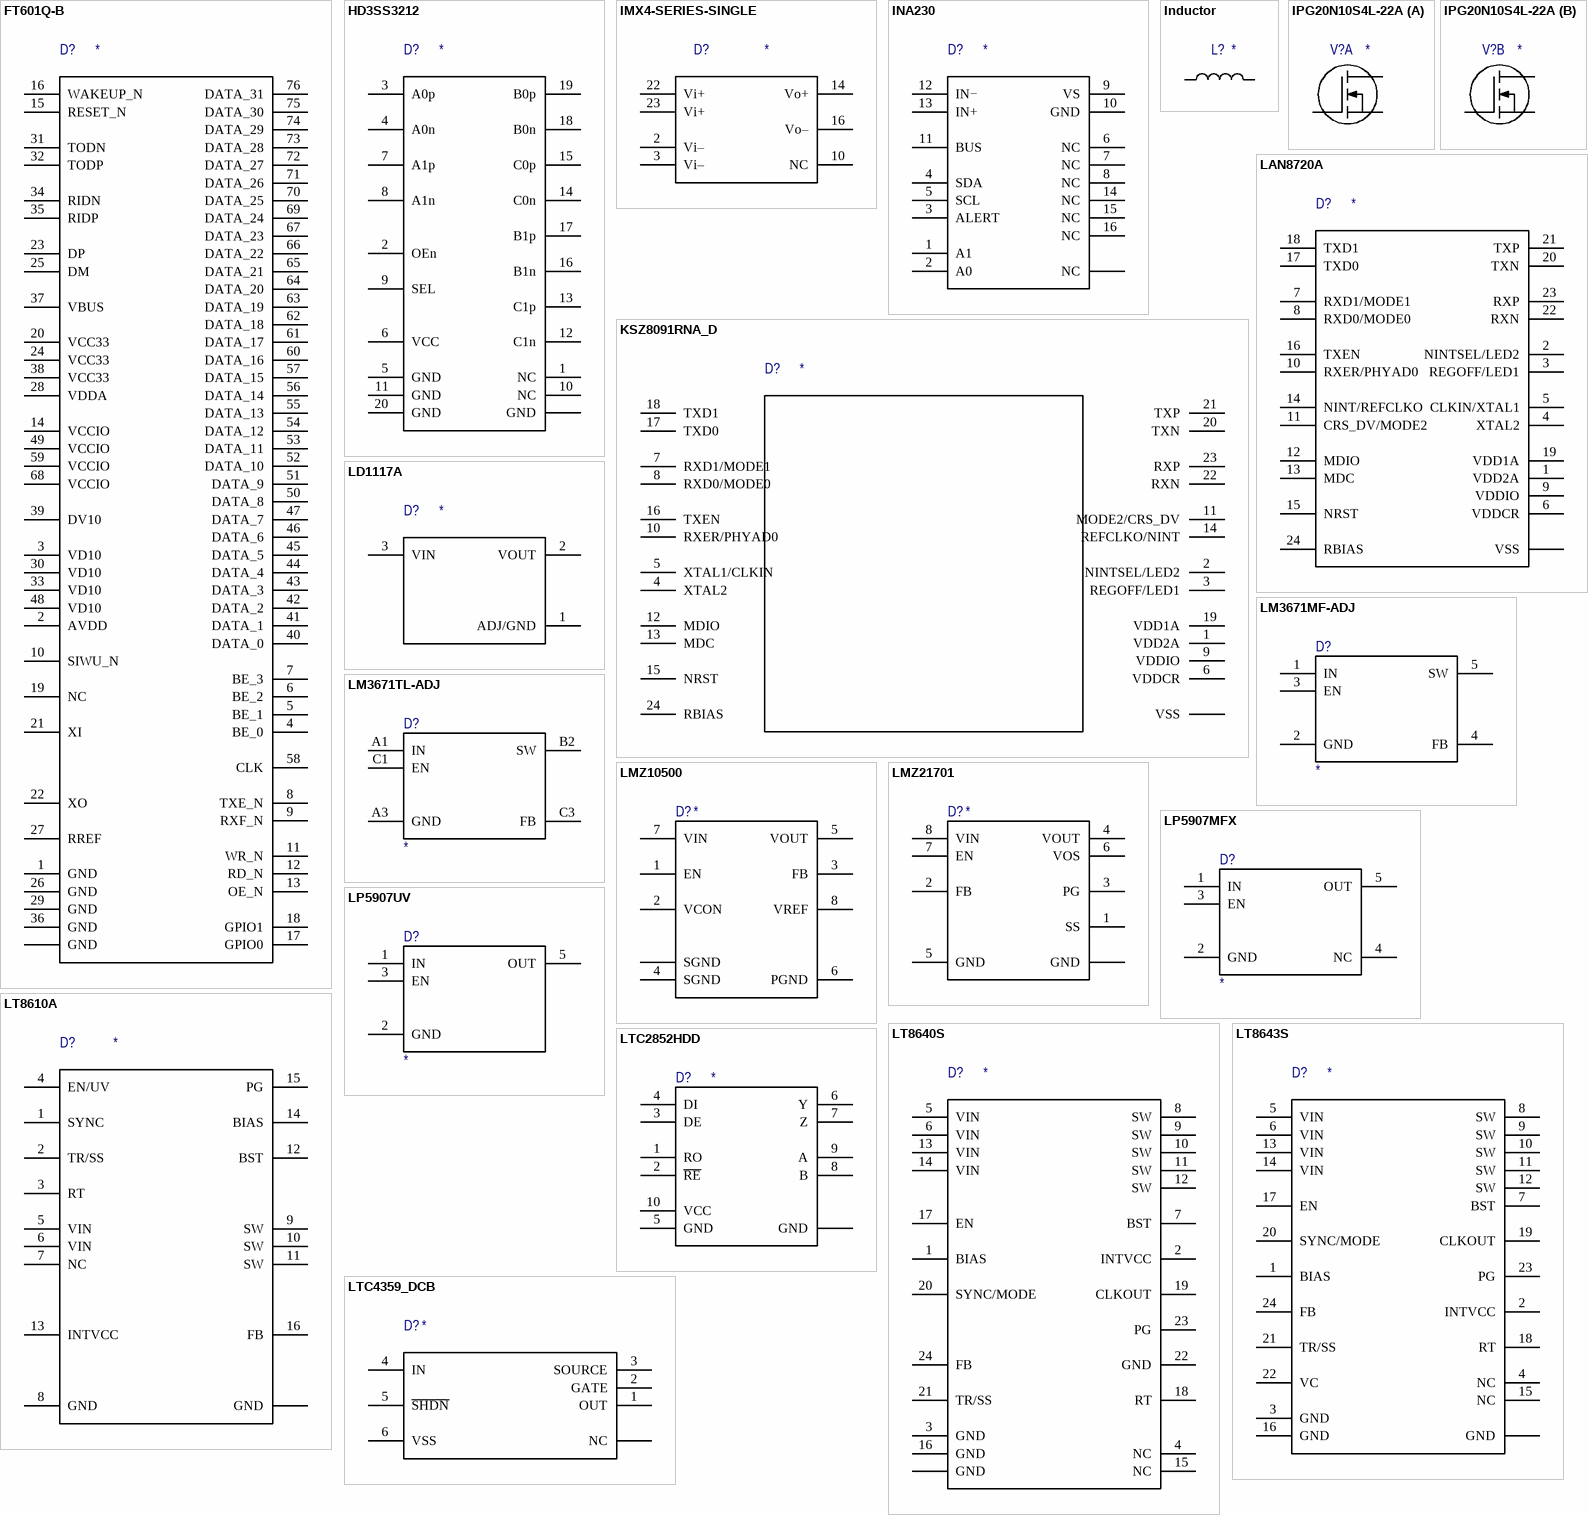
[diagram p5: symbols FT601Q-B to LTC4359_DCB]

## FT601Q-B
designator D?
Интегральная микросхема; Manufacturer: *; Part Number: *
pins: 1 GND, 2 AVDD, 3 VD10, 4 BE_0, 5 BE_1, 6 BE_2, 7 BE_3, 8 TXE_N, 9 RXF_N, 10 SIWU_N, 11 WR_N, 12 RD_N, 13 OE_N, 14 VCCIO, 15 RESET_N, 16 WAKEUP_N, 17 GPIO0, 18 GPIO1, 19 NC, 20 VCC33, 21 XI, 22 XO, 23 DP, 24 VCC33, 25 DM, 26 GND, 27 RREF, 28 VDDA, 29 GND, 30 VD10, 31 TODN, 32 TODP, 33 VD10, 34 RIDN, 35 RIDP, 36 GND, 37 VBUS, 38 VCC33, 39 DV10, 40 DATA_0, 41 DATA_1, 42 DATA_2, 43 DATA_3, 44 DATA_4, 45 DATA_5, 46 DATA_6, 47 DATA_7, 48 VD10, 49 VCCIO, 50 DATA_8, 51 DATA_9, 52 DATA_10, 53 DATA_11, 54 DATA_12, 55 DATA_13, 56 DATA_14, 57 DATA_15, 58 CLK, 59 VCCIO, 60 DATA_16, 61 DATA_17, 62 DATA_18, 63 DATA_19, 64 DATA_20, 65 DATA_21, 66 DATA_22, 67 DATA_23, 68 VCCIO, 69 DATA_24, 70 DATA_25, 71 DATA_26, 72 DATA_27, 73 DATA_28, 74 DATA_29, 75 DATA_30, 76 DATA_31, PAD GND

## HD3SS3212
designator D?
Интегральная микросхема; Manufacturer: *; Part Number: *
pins: 1 NC, 2 OEn, 3 A0p, 4 A0n, 5 GND, 6 VCC, 7 A1p, 8 A1n, 9 SEL, 10 NC, 11 GND, 12 C1n, 13 C1p, 14 C0n, 15 C0p, 16 B1n, 17 B1p, 18 B0n, 19 B0p, 20 GND, PAD GND

## IMX4-SERIES-SINGLE
designator D?
Manufacturer: *; Part Number: *
footprint QFN-20-3x3
pins: 2 Vi–, 3 Vi–, 10 NC, 14 Vo+, 16 Vo–, 22 Vi+, 23 Vi+

## INA230
designator D?
Интегральная микросхема; Manufacturer: *; Part Number: *
pins: 1 A1, 2 A0, 3 ALERT, 4 SDA, 5 SCL, 6 NC, 7 NC, 8 NC, 9 VS, 10 GND, 11 BUS, 12 IN−, 13 IN+, 14 NC, 15 NC, 16 NC, PAD NC

## Inductor
designator L?
Индуктивность; Part Number: *; Manufacturer: *; Value: *
pins: 1, 2

## IPG20N10S4L-22A
designator V?
Транзистор полевой; Manufacturer: *; Part Number: *
part A pins: D1, G1, S1
part B pins: D2, G2, S2

## KSZ8091RNA_D
designator D?
Интегральная микросхема; Manufacturer: *; Part Number: *
pins: 1 VDD2A (power), 2 NINTSEL/LED2, 3 REGOFF/LED1, 4 XTAL2, 5 XTAL1/CLKIN, 6 VDDCR (power), 7 RXD1/MODE1, 8 RXD0/MODE0, 9 VDDIO (power), 10 RXER/PHYAD0, 11 MODE2/CRS_DV, 12 MDIO, 13 MDC, 14 REFCLKO/NINT, 15 NRST, 16 TXEN, 17 TXD0, 18 TXD1, 19 VDD1A (power), 20 TXN, 21 TXP, 22 RXN, 23 RXP, 24 RBIAS, PAD VSS "Connect"

## LAN8720A
designator D?
Интегральная микросхема; Manufacturer: *; Part Number: *
pins: 1 VDD2A (power), 2 NINTSEL/LED2, 3 REGOFF/LED1, 4 XTAL2, 5 CLKIN/XTAL1, 6 VDDCR (power), 7 RXD1/MODE1, 8 RXD0/MODE0, 9 VDDIO (power), 10 RXER/PHYAD0, 11 CRS_DV/MODE2, 12 MDIO, 13 MDC, 14 NINT/REFCLKO, 15 NRST, 16 TXEN, 17 TXD0, 18 TXD1, 19 VDD1A (power), 20 TXN, 21 TXP, 22 RXN, 23 RXP, 24 RBIAS, PAD VSS "Connect"

## LD1117A
designator D?
Интегральная микросхема; Manufacturer: *; Part Number: *
pins: 1 ADJ/GND, 2 VOUT, 3 VIN

## LM3671MF-ADJ
designator D?
Интегральная микросхема; Manufacturer: *; Part Number: *
pins: 1 IN, 2 GND, 3 EN, 4 FB, 5 SW

## LM3671TL-ADJ
designator D?
Интегральная микросхема; Manufacturer: *; Part Number: *
pins: A1 IN, A3 GND, B2 SW, C1 EN, C3 FB

## LMZ10500
designator D?
Интегральная микросхема; Manufacturer: *; Part Number: *
pins: 1 EN, 2 VCON, 3 FB, 4 SGND, 5 VOUT, 6 PGND, 7 VIN, 8 VREF, PAD SGND

## LMZ21701
designator D?
Интегральная микросхема; Manufacturer: *; Part Number: *
pins: 1 SS, 2 FB, 3 PG, 4 VOUT, 5 GND, 6 VOS, 7 EN, 8 VIN, PAD GND

## LP5907MFX
designator D?
Интегральная микросхема; Manufacturer: *; Part Number: *
pins: 1 IN, 2 GND, 3 EN, 4 NC, 5 OUT

## LP5907UV
designator D?
Интегральная микросхема; Manufacturer: *; Part Number: *
pins: 1 IN, 2 GND, 3 EN, 5 OUT

## LT8610A
designator D?
Интегральная микросхема; Manufacturer: *; Part Number: *
pins: 1 SYNC, 2 TR/SS, 3 RT, 4 EN/UV, 5 VIN, 6 VIN, 7 NC, 8 GND, 9 SW, 10 SW, 11 SW, 12 BST, 13 INTVCC, 14 BIAS, 15 PG, 16 FB, PAD GND

## LT8640S
designator D?
Интегральная микросхема; Manufacturer: *; Part Number: *
pins: 1 BIAS, 2 INTVCC, 3 GND, 4 NC, 5 VIN, 6 VIN, 7 BST, 8 SW, 9 SW, 10 SW, 11 SW, 12 SW, 13 VIN, 14 VIN, 15 NC, 16 GND, 17 EN, 18 RT, 19 CLKOUT, 20 SYNC/MODE, 21 TR/SS, 22 GND, 23 PG, 24 FB, PAD GND

## LT8643S
designator D?
Интегральная микросхема; Manufacturer: *; Part Number: *
pins: 1 BIAS, 2 INTVCC, 3 GND, 4 NC, 5 VIN, 6 VIN, 7 BST, 8 SW, 9 SW, 10 SW, 11 SW, 12 SW, 13 VIN, 14 VIN, 15 NC, 16 GND, 17 EN, 18 RT, 19 CLKOUT, 20 SYNC/MODE, 21 TR/SS, 22 VC, 23 PG, 24 FB, PAD GND

## LTC2852HDD
designator D?
Интегральная микросхема; Manufacturer: *; Part Number: *
pins: 1 RO, 2 ~{RE}, 3 DE, 4 DI, 5 GND, 6 Y, 7 Z, 8 B, 9 A, 10 VCC, PAD GND

## LTC4359_DCB
designator D?
Интегральная микросхема; Manufacturer: *; Part Number: *
pins: 1 OUT, 2 GATE, 3 SOURCE, 4 IN, 5 ~{SHDN}, 6 VSS, PAD NC

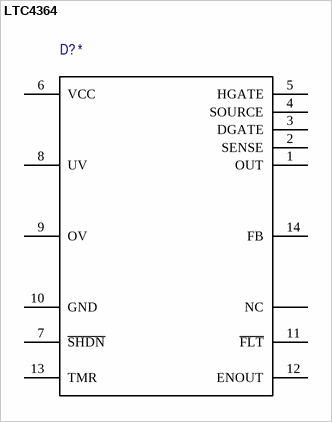
[diagram p6: symbol LTC4364]

## LTC4364
designator D?
Интегральная микросхема; Manufacturer: *; Part Number: *
pins: 1 OUT, 2 SENSE, 3 DGATE, 4 SOURCE, 5 HGATE, 6 VCC, 7 ~{SHDN}, 8 UV, 9 OV, 10 GND, 11 ~{FLT}, 12 ENOUT, 13 TMR, 14 FB, PAD NC

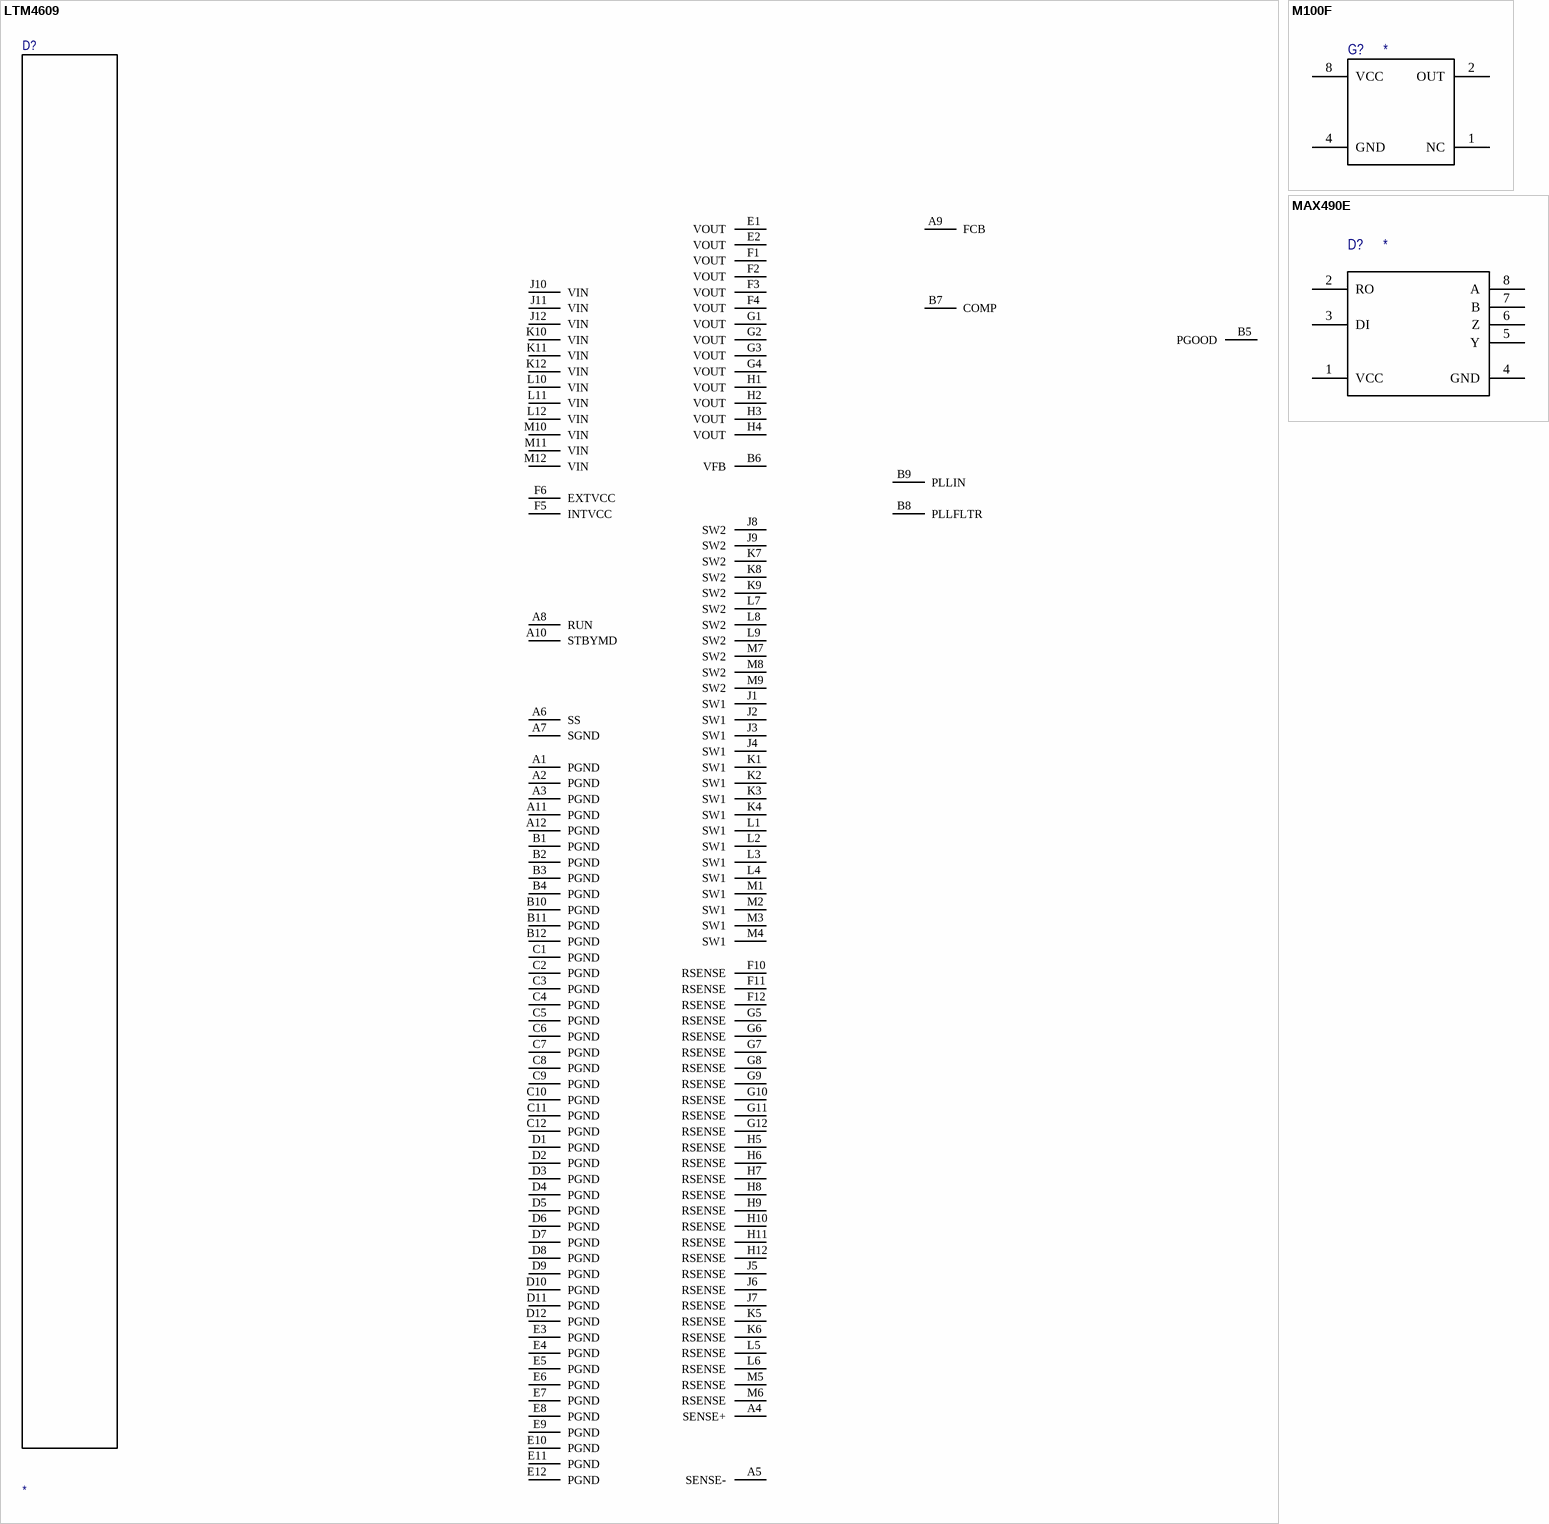
[diagram p7: symbols LTM4609 to MAX490E]

## LTM4609
designator D?
Интегральная микросхема; Manufacturer: *; Part Number: *
pins: A1 PGND, A2 PGND, A3 PGND, A4 SENSE+, A5 SENSE-, A6 SS, A7 SGND, A8 RUN, A9 FCB, A10 STBYMD, A11 PGND, A12 PGND, B1 PGND, B2 PGND, B3 PGND, B4 PGND, B5 PGOOD, B6 VFB, B7 COMP, B8 PLLFLTR, B9 PLLIN, B10 PGND, B11 PGND, B12 PGND, C1 PGND, C2 PGND, C3 PGND, C4 PGND, C5 PGND, C6 PGND, C7 PGND, C8 PGND, C9 PGND, C10 PGND, C11 PGND, C12 PGND, D1 PGND, D2 PGND, D3 PGND, D4 PGND, D5 PGND, D6 PGND, D7 PGND, D8 PGND, D9 PGND, D10 PGND, D11 PGND, D12 PGND, E1 VOUT, E2 VOUT, E3 PGND, E4 PGND, E5 PGND, E6 PGND, E7 PGND, E8 PGND, E9 PGND, E10 PGND, E11 PGND, E12 PGND, F1 VOUT, F2 VOUT, F3 VOUT, F4 VOUT, F5 INTVCC, F6 EXTVCC, F10 RSENSE, F11 RSENSE, F12 RSENSE, G1 VOUT, G2 VOUT, G3 VOUT, G4 VOUT, G5 RSENSE, G6 RSENSE, G7 RSENSE, G8 RSENSE, G9 RSENSE, G10 RSENSE, G11 RSENSE, G12 RSENSE, H1 VOUT, H2 VOUT, H3 VOUT, H4 VOUT, H5 RSENSE, H6 RSENSE, H7 RSENSE, H8 RSENSE, H9 RSENSE, H10 RSENSE, H11 RSENSE, H12 RSENSE, J1 SW1, J2 SW1, J3 SW1, J4 SW1, J5 RSENSE, J6 RSENSE, J7 RSENSE, J8 SW2, J9 SW2, J10 VIN, J11 VIN, J12 VIN, K1 SW1, K2 SW1, K3 SW1, K4 SW1, K5 RSENSE, K6 RSENSE, K7 SW2, K8 SW2, K9 SW2, K10 VIN, K11 VIN, K12 VIN, L1 SW1, L2 SW1, L3 SW1, L4 SW1, L5 RSENSE, L6 RSENSE, L7 SW2, L8 SW2, L9 SW2, L10 VIN, L11 VIN, L12 VIN, M1 SW1, M2 SW1, M3 SW1, M4 SW1, M5 RSENSE, M6 RSENSE, M7 SW2, M8 SW2, M9 SW2, M10 VIN, M11 VIN, M12 VIN

## M100F
designator G?
Генератор тактового сигнала; Manufacturer: *; Part Number: *
pins: 1 NC, 2 OUT, 4 GND, 8 VCC

## MAX490E
designator D?
Интегральная микросхема; Manufacturer: *; Part Number: *
pins: 1 VCC, 2 RO, 3 DI, 4 GND, 5 Y, 6 Z, 7 B, 8 A

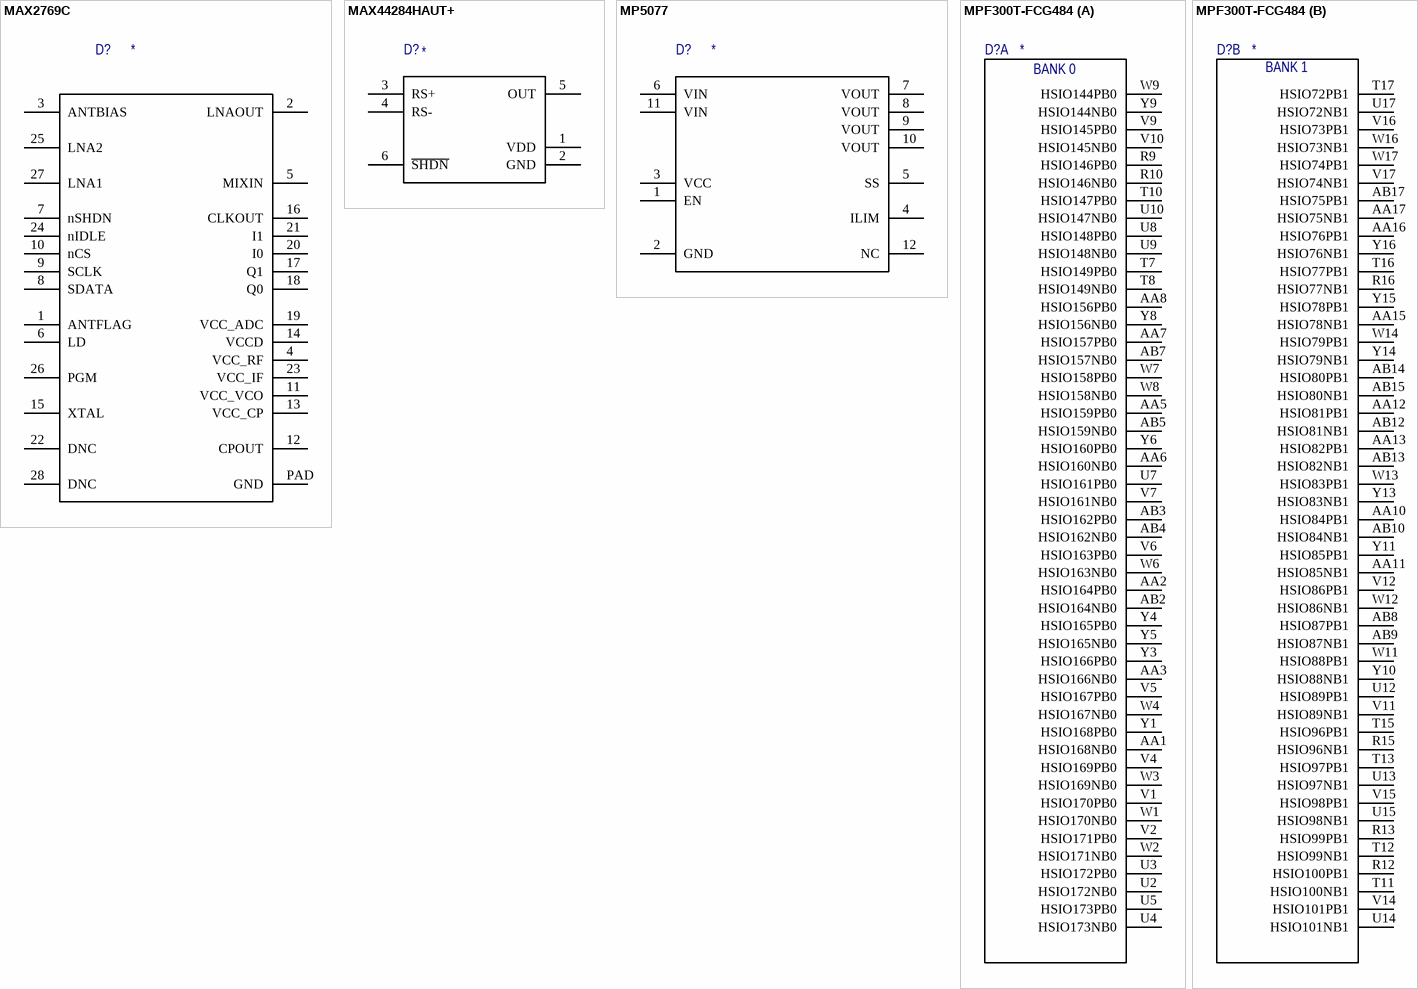
[diagram p8: symbols MAX2769C to MPF300T-FCG484]

## MAX2769C
designator D?
Интегральная микросхема; Manufacturer: *; Part Number: *
pins: 1 ANTFLAG, 2 LNAOUT, 3 ANTBIAS, 4 VCC_RF, 5 MIXIN, 6 LD, 7 nSHDN, 8 SDATA, 9 SCLK, 10 nCS, 11 VCC_VCO, 12 CPOUT, 13 VCC_CP, 14 VCCD, 15 XTAL, 16 CLKOUT, 17 Q1, 18 Q0, 19 VCC_ADC, 20 I0, 21 I1, 22 DNC, 23 VCC_IF, 24 nIDLE, 25 LNA2, 26 PGM, 27 LNA1, 28 DNC, PAD GND

## MAX44284HAUT+
designator D?
Интегральная микросхема; Manufacturer: *; Part Number: *
pins: 1 VDD, 2 GND, 3 RS+, 4 RS-, 5 OUT, 6 ~{SHDN}

## MP5077
designator D?
Интегральная микросхема; Manufacturer: *; Part Number: *
pins: 1 EN, 2 GND, 3 VCC, 4 ILIM, 5 SS, 6 VIN, 7 VOUT, 8 VOUT, 9 VOUT, 10 VOUT, 11 VIN, 12 NC

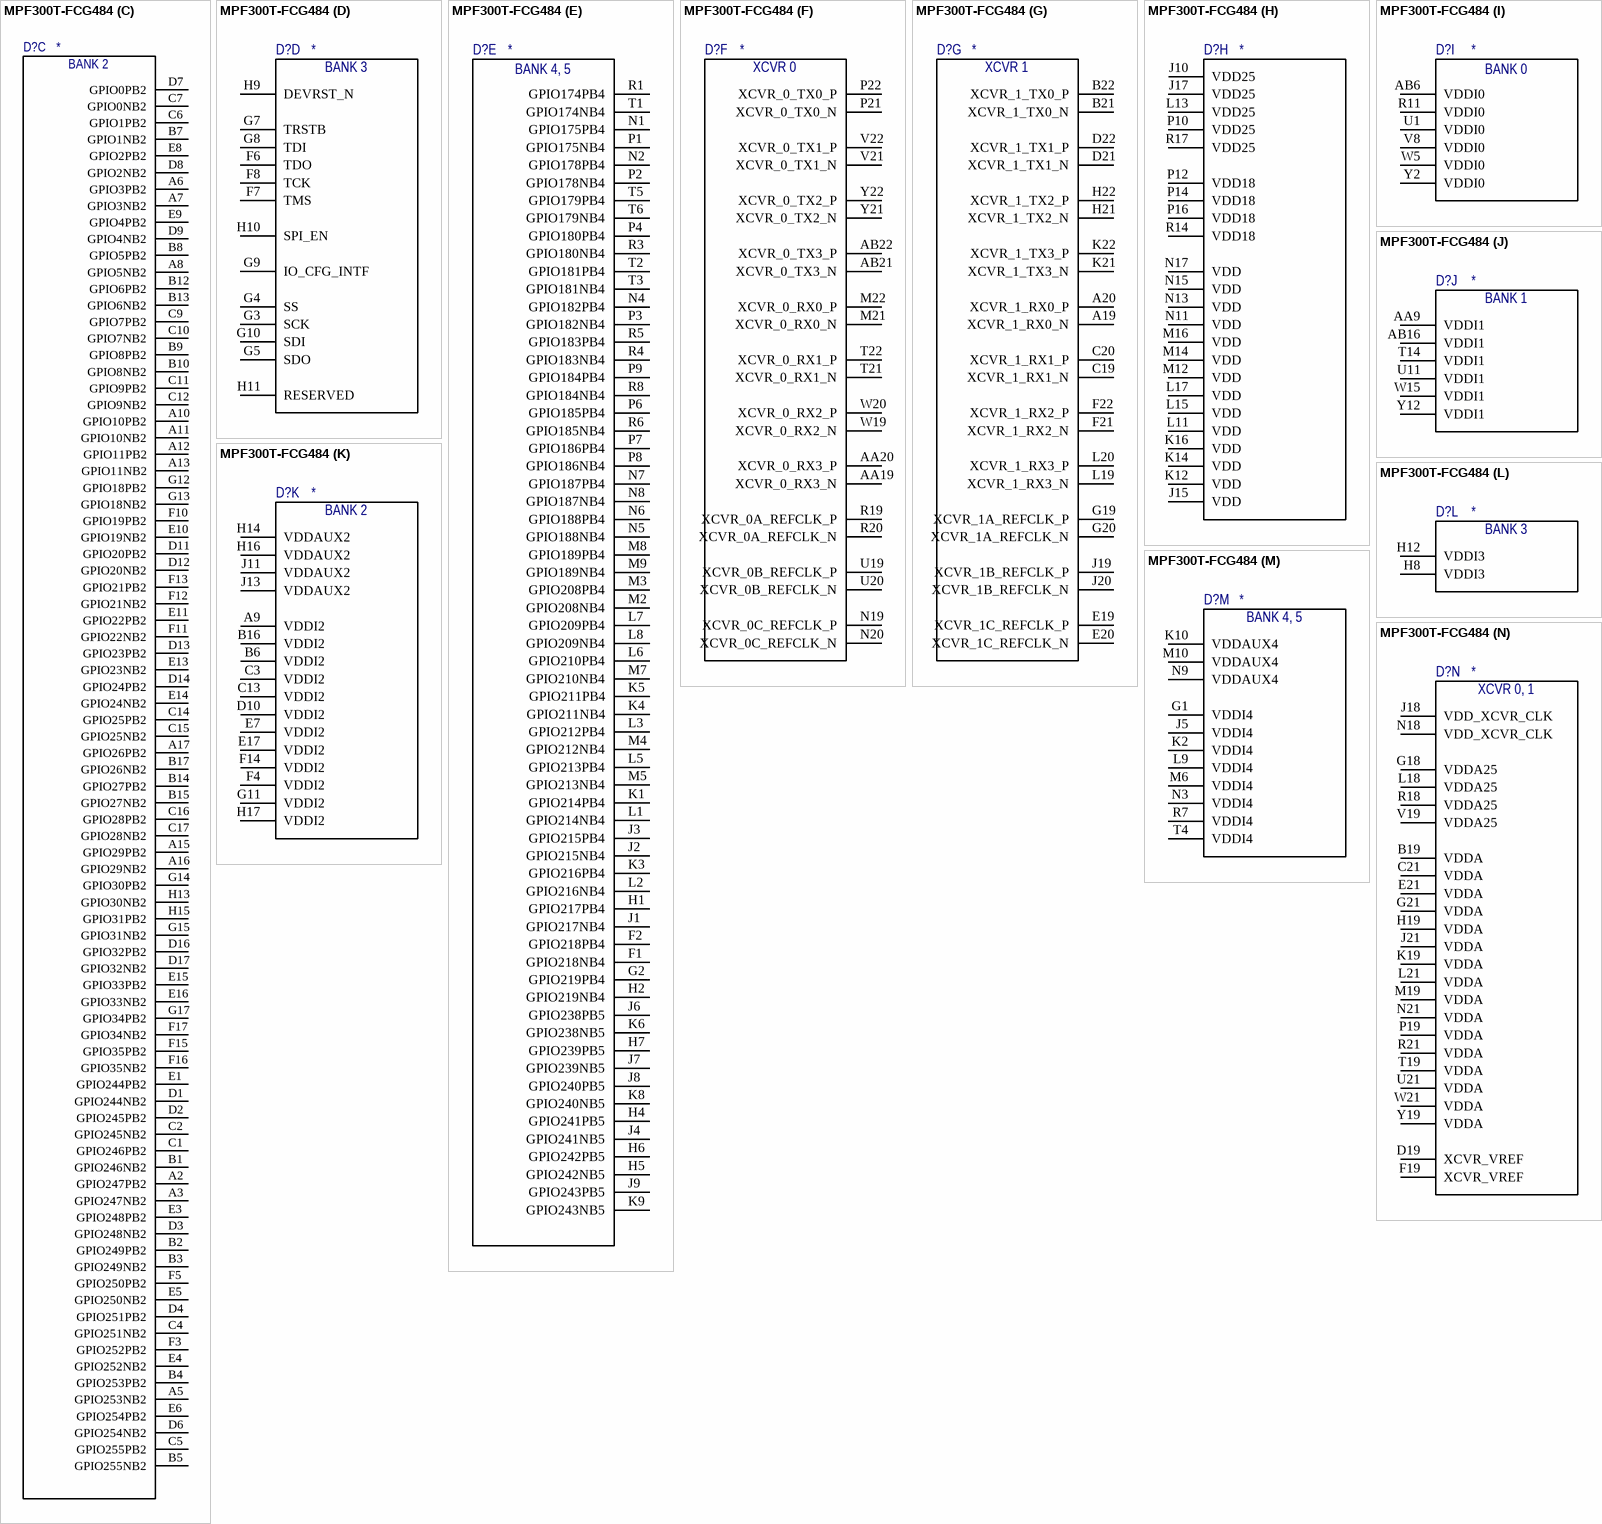
[diagram p9: symbol MPF300T-FCG484]

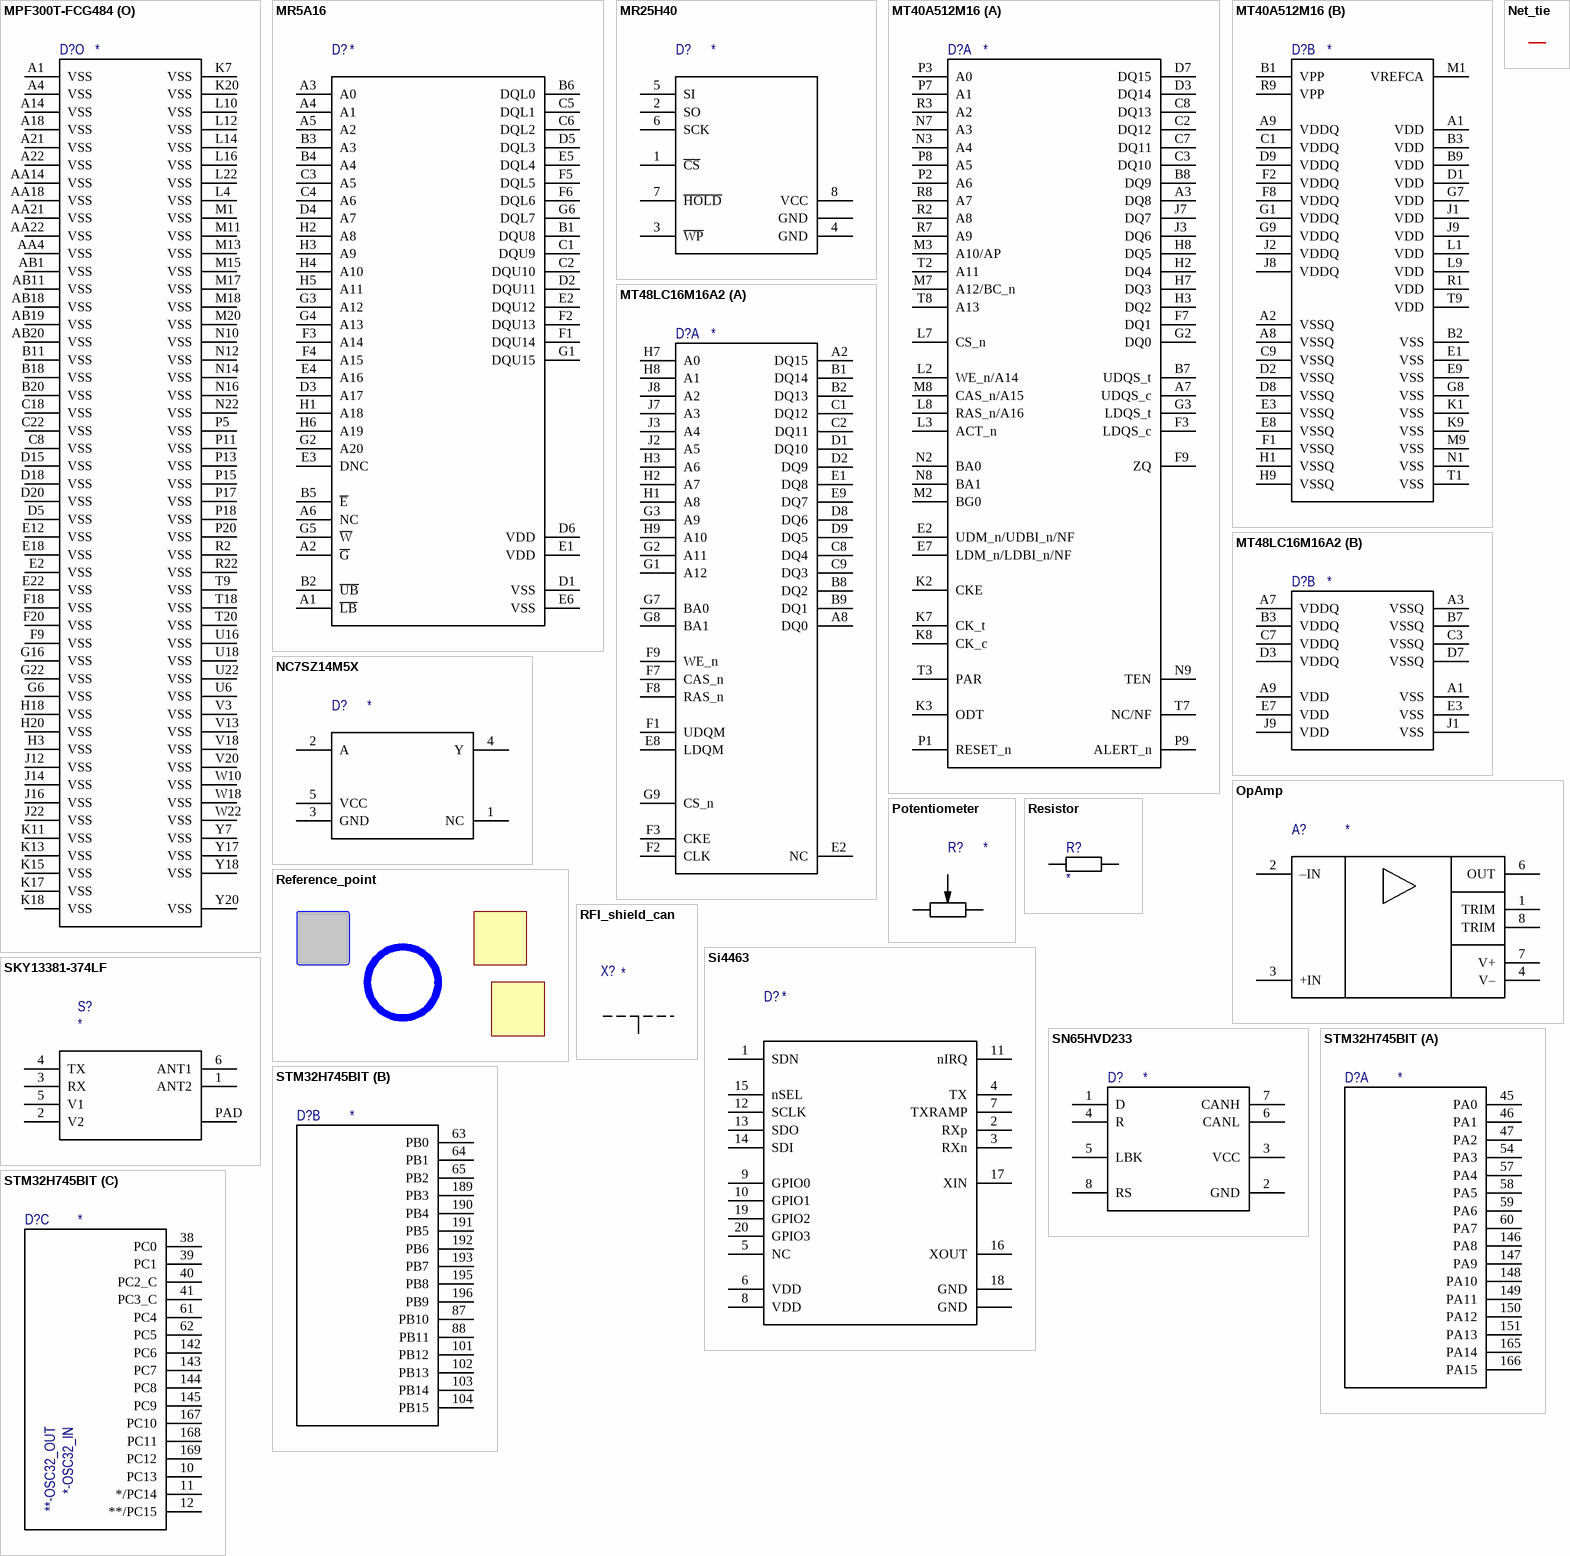
[diagram p10: symbols MPF300T-FCG484 to STM32H745BIT]

## MPF300T-FCG484
designator D?
Интегральная микросхема (ПЛИС); Manufacturer: *; Part Number: *
part A pins: AA1 HSIO168NB0, AA2 HSIO164PB0, AA3 HSIO166NB0, AA5 HSIO159PB0, AA6 HSIO160NB0, AA7 HSIO157PB0, AA8 HSIO156PB0, AB2 HSIO164NB0, AB3 HSIO162PB0, AB4 HSIO162NB0, AB5 HSIO159NB0, AB7 HSIO157NB0, R9 HSIO146PB0, R10 HSIO146NB0, T7 HSIO149PB0, T8 HSIO149NB0, T10 HSIO147PB0, U2 HSIO172NB0, U3 HSIO172PB0, U4 HSIO173NB0, U5 HSIO173PB0, U7 HSIO161PB0, U8 HSIO148PB0, U9 HSIO148NB0, U10 HSIO147NB0, V1 HSIO170PB0, V2 HSIO171PB0, V4 HSIO169PB0, V5 HSIO167PB0, V6 HSIO163PB0, V7 HSIO161NB0, V9 HSIO145PB0, V10 HSIO145NB0, W1 HSIO170NB0, W2 HSIO171NB0, W3 HSIO169NB0, W4 HSIO167NB0, W6 HSIO163NB0, W7 HSIO158PB0, W8 HSIO158NB0, W9 HSIO144PB0, Y1 HSIO168PB0, Y3 HSIO166PB0, Y4 HSIO165PB0, Y5 HSIO165NB0, Y6 HSIO160PB0, Y8 HSIO156NB0, Y9 HSIO144NB0
part B pins: AA10 HSIO84PB1, AA11 HSIO85NB1, AA12 HSIO81PB1, AA13 HSIO82PB1, AA15 HSIO78NB1, AA16 HSIO76PB1, AA17 HSIO75NB1, AB8 HSIO87PB1, AB9 HSIO87NB1, AB10 HSIO84NB1, AB12 HSIO81NB1, AB13 HSIO82NB1, AB14 HSIO80PB1, AB15 HSIO80NB1, AB17 HSIO75PB1, R12 HSIO100PB1, R13 HSIO99PB1, R15 HSIO96NB1, R16 HSIO77NB1, T11 HSIO100NB1, T12 HSIO99NB1, T13 HSIO97PB1, T15 HSIO96PB1, T16 HSIO77PB1, T17 HSIO72PB1, U12 HSIO89PB1, U13 HSIO97NB1, U14 HSIO101NB1, U15 HSIO98NB1, U17 HSIO72NB1, V11 HSIO89NB1, V12 HSIO86PB1, V14 HSIO101PB1, V15 HSIO98PB1, V16 HSIO73PB1, V17 HSIO74NB1, W11 HSIO88PB1, W12 HSIO86NB1, W13 HSIO83PB1, W14 HSIO79PB1, W16 HSIO73NB1, W17 HSIO74PB1, Y10 HSIO88NB1, Y11 HSIO85PB1, Y13 HSIO83NB1, Y14 HSIO79NB1, Y15 HSIO78PB1, Y16 HSIO76NB1
part C pins: A2 GPIO247PB2, A3 GPIO247NB2, A5 GPIO253NB2, A6 GPIO3PB2, A7 GPIO3NB2, A8 GPIO5NB2, A10 GPIO10PB2, A11 GPIO10NB2, A12 GPIO11PB2, A13 GPIO11NB2, A15 GPIO29PB2, A16 GPIO29NB2, A17 GPIO26PB2, B1 GPIO246NB2, B2 GPIO249PB2, B3 GPIO249NB2, B4 GPIO253PB2, B5 GPIO255NB2, B7 GPIO1NB2, B8 GPIO5PB2, B9 GPIO8PB2, B10 GPIO8NB2, B12 GPIO6PB2, B13 GPIO6NB2, B14 GPIO27PB2, B15 GPIO27NB2, B17 GPIO26NB2, C1 GPIO246PB2, C2 GPIO245NB2, C4 GPIO251NB2, C5 GPIO255PB2, C6 GPIO1PB2, C7 GPIO0NB2, C9 GPIO7PB2, C10 GPIO7NB2, C11 GPIO9PB2, C12 GPIO9NB2, C14 GPIO25PB2, C15 GPIO25NB2, C16 GPIO28PB2, C17 GPIO28NB2, D1 GPIO244NB2, D2 GPIO245PB2, D3 GPIO248NB2, D4 GPIO251PB2, D6 GPIO254NB2, D7 GPIO0PB2, D8 GPIO2NB2, D9 GPIO4NB2, D11 GPIO20PB2, D12 GPIO20NB2, D13 GPIO23PB2, D14 GPIO24PB2, D16 GPIO32PB2, D17 GPIO32NB2, E1 GPIO244PB2, E3 GPIO248PB2, E4 GPIO252NB2, E5 GPIO250NB2, E6 GPIO254PB2, E8 GPIO2PB2, E9 GPIO4PB2, E10 GPIO19NB2, E11 GPIO22PB2, E13 GPIO23NB2, E14 GPIO24NB2, E15 GPIO33PB2, E16 GPIO33NB2, F3 GPIO252PB2, F5 GPIO250PB2, F10 GPIO19PB2, F11 GPIO22NB2, F12 GPIO21NB2, F13 GPIO21PB2, F15 GPIO35PB2, F16 GPIO35NB2, F17 GPIO34NB2, G12 GPIO18PB2, G13 GPIO18NB2, G14 GPIO30PB2, G15 GPIO31NB2, G17 GPIO34PB2, H13 GPIO30NB2, H15 GPIO31PB2
part D pins: F6 TDO, F7 TMS, F8 TCK, G3 SCK, G4 SS, G5 SDO, G7 TRSTB, G8 TDI, G9 IO_CFG_INTF, G10 SDI, H9 DEVRST_N, H10 SPI_EN, H11 RESERVED
part E pins: F1 GPIO218NB4, F2 GPIO218PB4, G2 GPIO219PB4, H1 GPIO217PB4, H2 GPIO219NB4, H4 GPIO241PB5, H5 GPIO242NB5, H6 GPIO242PB5, H7 GPIO239PB5, J1 GPIO217NB4, J2 GPIO215NB4, J3 GPIO215PB4, J4 GPIO241NB5, J6 GPIO238PB5, J7 GPIO239NB5, J8 GPIO240PB5, J9 GPIO243PB5, K1 GPIO214PB4, K3 GPIO216PB4, K4 GPIO211NB4, K5 GPIO211PB4, K6 GPIO238NB5, K8 GPIO240NB5, K9 GPIO243NB5, L1 GPIO214NB4, L2 GPIO216NB4, L3 GPIO212PB4, L5 GPIO213PB4, L6 GPIO210PB4, L7 GPIO209PB4, L8 GPIO209NB4, M2 GPIO208NB4, M3 GPIO208PB4, M4 GPIO212NB4, M5 GPIO213NB4, M7 GPIO210NB4, M8 GPIO189PB4, M9 GPIO189NB4, N1 GPIO175PB4, N2 GPIO178PB4, N4 GPIO182PB4, N5 GPIO188NB4, N6 GPIO188PB4, N7 GPIO187PB4, N8 GPIO187NB4, P1 GPIO175NB4, P2 GPIO178NB4, P3 GPIO182NB4, P4 GPIO180PB4, P6 GPIO185PB4, P7 GPIO186PB4, P8 GPIO186NB4, P9 GPIO184PB4, R1 GPIO174PB4, R3 GPIO180NB4, R4 GPIO183NB4, R5 GPIO183PB4, R6 GPIO185NB4, R8 GPIO184NB4, T1 GPIO174NB4, T2 GPIO181PB4, T3 GPIO181NB4, T5 GPIO179PB4, T6 GPIO179NB4
part F pins: AA19 XCVR_0_RX3_N, AA20 XCVR_0_RX3_P, AB21 XCVR_0_TX3_N, AB22 XCVR_0_TX3_P, M21 XCVR_0_RX0_N, M22 XCVR_0_RX0_P, N19 XCVR_0C_REFCLK_P, N20 XCVR_0C_REFCLK_N, P21 XCVR_0_TX0_N, P22 XCVR_0_TX0_P, R19 XCVR_0A_REFCLK_P, R20 XCVR_0A_REFCLK_N, T21 XCVR_0_RX1_N, T22 XCVR_0_RX1_P, U19 XCVR_0B_REFCLK_P, U20 XCVR_0B_REFCLK_N, V21 XCVR_0_TX1_N, V22 XCVR_0_TX1_P, W19 XCVR_0_RX2_N, W20 XCVR_0_RX2_P, Y21 XCVR_0_TX2_N, Y22 XCVR_0_TX2_P
part G pins: A19 XCVR_1_RX0_N, A20 XCVR_1_RX0_P, B21 XCVR_1_TX0_N, B22 XCVR_1_TX0_P, C19 XCVR_1_RX1_N, C20 XCVR_1_RX1_P, D21 XCVR_1_TX1_N, D22 XCVR_1_TX1_P, E19 XCVR_1C_REFCLK_P, E20 XCVR_1C_REFCLK_N, F21 XCVR_1_RX2_N, F22 XCVR_1_RX2_P, G19 XCVR_1A_REFCLK_P, G20 XCVR_1A_REFCLK_N, H21 XCVR_1_TX2_N, H22 XCVR_1_TX2_P, J19 XCVR_1B_REFCLK_P, J20 XCVR_1B_REFCLK_N, K21 XCVR_1_TX3_N, K22 XCVR_1_TX3_P, L19 XCVR_1_RX3_N, L20 XCVR_1_RX3_P
part H pins: J10 VDD25, J15 VDD, J17 VDD25, K12 VDD, K14 VDD, K16 VDD, L11 VDD, L13 VDD25, L15 VDD, L17 VDD, M12 VDD, M14 VDD, M16 VDD, N11 VDD, N13 VDD, N15 VDD, N17 VDD, P10 VDD25, P12 VDD18, P14 VDD18, P16 VDD18, R14 VDD18, R17 VDD25
part I pins: AB6 VDDI0, R11 VDDI0, U1 VDDI0, V8 VDDI0, W5 VDDI0, Y2 VDDI0
part J pins: AA9 VDDI1, AB16 VDDI1, T14 VDDI1, U11 VDDI1, W15 VDDI1, Y12 VDDI1
part K pins: A9 VDDI2, B6 VDDI2, B16 VDDI2, C3 VDDI2, C13 VDDI2, D10 VDDI2, E7 VDDI2, E17 VDDI2, F4 VDDI2, F14 VDDI2, G11 VDDI2, H14 VDDAUX2, H16 VDDAUX2, H17 VDDI2, J11 VDDAUX2, J13 VDDAUX2
part L pins: H8 VDDI3, H12 VDDI3
part M pins: G1 VDDI4, J5 VDDI4, K2 VDDI4, K10 VDDAUX4, L9 VDDI4, M6 VDDI4, M10 VDDAUX4, N3 VDDI4, N9 VDDAUX4, R7 VDDI4, T4 VDDI4
part N pins: B19 VDDA, C21 VDDA, D19 XCVR_VREF, E21 VDDA, F19 XCVR_VREF, G18 VDDA25, G21 VDDA, H19 VDDA, J18 VDD_XCVR_CLK, J21 VDDA, K19 VDDA, L18 VDDA25, L21 VDDA, M19 VDDA, N18 VDD_XCVR_CLK, N21 VDDA, P19 VDDA, R18 VDDA25, R21 VDDA, T19 VDDA, U21 VDDA, V19 VDDA25, W21 VDDA, Y19 VDDA
part O pins: A1 VSS, A4 VSS, A14 VSS, A18 VSS, A21 VSS, A22 VSS, AA4 VSS, AA14 VSS, AA18 VSS, AA21 VSS, AA22 VSS, AB1 VSS, AB11 VSS, AB18 VSS, AB19 VSS, AB20 VSS, B11 VSS, B18 VSS, B20 VSS, C8 VSS, C18 VSS, C22 VSS, D5 VSS, D15 VSS, D18 VSS, D20 VSS, E2 VSS, E12 VSS, E18 VSS, E22 VSS, F9 VSS, F18 VSS, F20 VSS, G6 VSS, G16 VSS, G22 VSS, H3 VSS, H18 VSS, H20 VSS, J12 VSS, J14 VSS, J16 VSS, J22 VSS, K7 VSS, K11 VSS, K13 VSS, K15 VSS, K17 VSS, K18 VSS, K20 VSS, L4 VSS, L10 VSS, L12 VSS, L14 VSS, L16 VSS, L22 VSS, M1 VSS, M11 VSS, M13 VSS, M15 VSS, M17 VSS, M18 VSS, M20 VSS, N10 VSS, N12 VSS, N14 VSS, N16 VSS, N22 VSS, P5 VSS, P11 VSS, P13 VSS, P15 VSS, P17 VSS, P18 VSS, P20 VSS, R2 VSS, R22 VSS, T9 VSS, T18 VSS, T20 VSS, U6 VSS, U16 VSS, U18 VSS, U22 VSS, V3 VSS, V13 VSS, V18 VSS, V20 VSS, W10 VSS, W18 VSS, W22 VSS, Y7 VSS, Y17 VSS, Y18 VSS, Y20 VSS
part A text: BANK 0
part B text: BANK 1
part C text: BANK 2
part D text: BANK 3
part E text: BANK 4, 5
part F text: XCVR 0
part G text: XCVR 1
part I text: BANK 0
part J text: BANK 1
part K text: BANK 2
part L text: BANK 3
part M text: BANK 4, 5
part N text: XCVR 0, 1

## MR5A16
designator D?
Конденсатор; Manufacturer: *; Part Number: *
pins: A1 ~{LB}, A2 ~{G}, A3 A0, A4 A1, A5 A2, A6 NC, B1 DQU8, B2 ~{UB}, B3 A3, B4 A4, B5 ~{E}, B6 DQL0, C1 DQU9, C2 DQU10, C3 A5, C4 A6, C5 DQL1, C6 DQL2, D1 VSS, D2 DQU11, D3 A17, D4 A7, D5 DQL3, D6 VDD, E1 VDD, E2 DQU12, E3 DNC, E4 A16, E5 DQL4, E6 VSS, F1 DQU14, F2 DQU13, F3 A14, F4 A15, F5 DQL5, F6 DQL6, G1 DQU15, G2 A20, G3 A12, G4 A13, G5 ~{W}, G6 DQL7, H1 A18, H2 A8, H3 A9, H4 A10, H5 A11, H6 A19

## MR25H40
designator D?
Интегральная микросхема, SPI MRAM; Manufacturer: *; Part Number: *
pins: 1 ~{CS}, 2 SO, 3 ~{WP}, 4 GND, 5 SI, 6 SCK, 7 ~{HOLD}, 8 VCC, PAD GND

## MT40A512M16
designator D?
Интегральная микросхема, Micron MT40A512M16; Manufacturer: *; Part Number: *
part A pins: A3 DQ8, A7 UDQS_c, B7 UDQS_t, B8 DQ9, C2 DQ12, C3 DQ10, C7 DQ11, C8 DQ13, D3 DQ14, D7 DQ15, E2 UDM_n/UDBI_n/NF, E7 LDM_n/LDBI_n/NF, F3 LDQS_c, F7 DQ1, F9 ZQ, G2 DQ0, G3 LDQS_t, H2 DQ4, H3 DQ2, H7 DQ3, H8 DQ5, J3 DQ6, J7 DQ7, K2 CKE, K3 ODT, K7 CK_t, K8 CK_c, L2 WE_n/A14, L3 ACT_n, L7 CS_n, L8 RAS_n/A16, M2 BG0, M3 A10/AP, M7 A12/BC_n, M8 CAS_n/A15, N2 BA0, N3 A4, N7 A3, N8 BA1, N9 TEN, P1 RESET_n, P2 A6, P3 A0, P7 A1, P8 A5, P9 ALERT_n, R2 A8, R3 A2, R7 A9, R8 A7, T2 A11, T3 PAR, T7 NC/NF, T8 A13
part B pins: A1 VDD, A2 VSSQ, A8 VSSQ, A9 VDDQ, B1 VPP, B2 VSS, B3 VDD, B9 VDD, C1 VDDQ, C9 VSSQ, D1 VDD, D2 VSSQ, D8 VSSQ, D9 VDDQ, E1 VSS, E3 VSSQ, E8 VSSQ, E9 VSS, F1 VSSQ, F2 VDDQ, F8 VDDQ, G1 VDDQ, G7 VDD, G8 VSS, G9 VDDQ, H1 VSSQ, H9 VSSQ, J1 VDD, J2 VDDQ, J8 VDDQ, J9 VDD, K1 VSS, K9 VSS, L1 VDD, L9 VDD, M1 VREFCA, M9 VSS, N1 VSS, R1 VDD, R9 VPP, T1 VSS, T9 VDD

## MT48LC16M16A2
designator D?
Интегральная микросхема; Manufacturer: *; Part Number: *
part A pins: A2 DQ15, A8 DQ0, B1 DQ14, B2 DQ13, B8 DQ2, B9 DQ1, C1 DQ12, C2 DQ11, C8 DQ4, C9 DQ3, D1 DQ10, D2 DQ9, D8 DQ6, D9 DQ5, E1 DQ8, E2 NC, E8 LDQM, E9 DQ7, F1 UDQM, F2 CLK, F3 CKE, F7 CAS_n, F8 RAS_n, F9 WE_n, G1 A12, G2 A11, G3 A9, G7 BA0, G8 BA1, G9 CS_n, H1 A8, H2 A7, H3 A6, H7 A0, H8 A1, H9 A10, J2 A5, J3 A4, J7 A3, J8 A2
part B pins: A1 VSS, A3 VSSQ, A7 VDDQ, A9 VDD, B3 VDDQ, B7 VSSQ, C3 VSSQ, C7 VDDQ, D3 VDDQ, D7 VSSQ, E3 VSS, E7 VDD, J1 VSS, J9 VDD

## NC7SZ14M5X
designator D?
Интегральная микросхема; Manufacturer: *; Part Number: *
pins: 1 NC, 2 A, 3 GND, 4 Y, 5 VCC

## Net_tie
designator NT?  (value not drawn)  (net tie, no BOM)
Короткое замыкание
pins: 1, 2

## OpAmp
designator A?
Операционный усилитель; Manufacturer: *; Part Number: *
pins: 1 TRIM, 2 –IN, 3 +IN, 4 V–, 6 OUT, 7 V+, 8 TRIM

## Potentiometer
designator R?
Потенциометр; Value: *; Manufacturer: *; Part Number: *
pins: 1, 2, 3

## Reference_point
designator REF?  (value not drawn)
Резонатор кварцевый; Value: *; Manufacturer: *; Tolerance: *; Part Number: *

## Resistor
designator R?
Резистор; Part Number: *; Manufacturer: *; Tolerance: *; Power: *; Value: *
pins: 1, 2

## RFI_shield_can
designator X?
Резонатор кварцевый; Part Number: *; Manufacturer: *
pins: PAD

## Si4463
designator D?
Интегральная микросхема; Manufacturer: *; Part Number: *
pins: 1 SDN, 2 RXp, 3 RXn, 4 TX, 5 NC, 6 VDD, 7 TXRAMP, 8 VDD, 9 GPIO0, 10 GPIO1, 11 nIRQ, 12 SCLK, 13 SDO, 14 SDI, 15 nSEL, 16 XOUT, 17 XIN, 18 GND, 19 GPIO2, 20 GPIO3, PAD GND

## SKY13381-374LF
designator S?
Интегральная микросхема; Manufacturer: *; Part Number: *
pins: 1 ANT2, 2 V2, 3 RX, 4 TX, 5 V1, 6 ANT1, PAD

## SN65HVD233
designator D?
Интегральная микросхема; Manufacturer: *; Part Number: *
pins: 1 D, 2 GND, 3 VCC, 4 R, 5 LBK, 6 CANL, 7 CANH, 8 RS

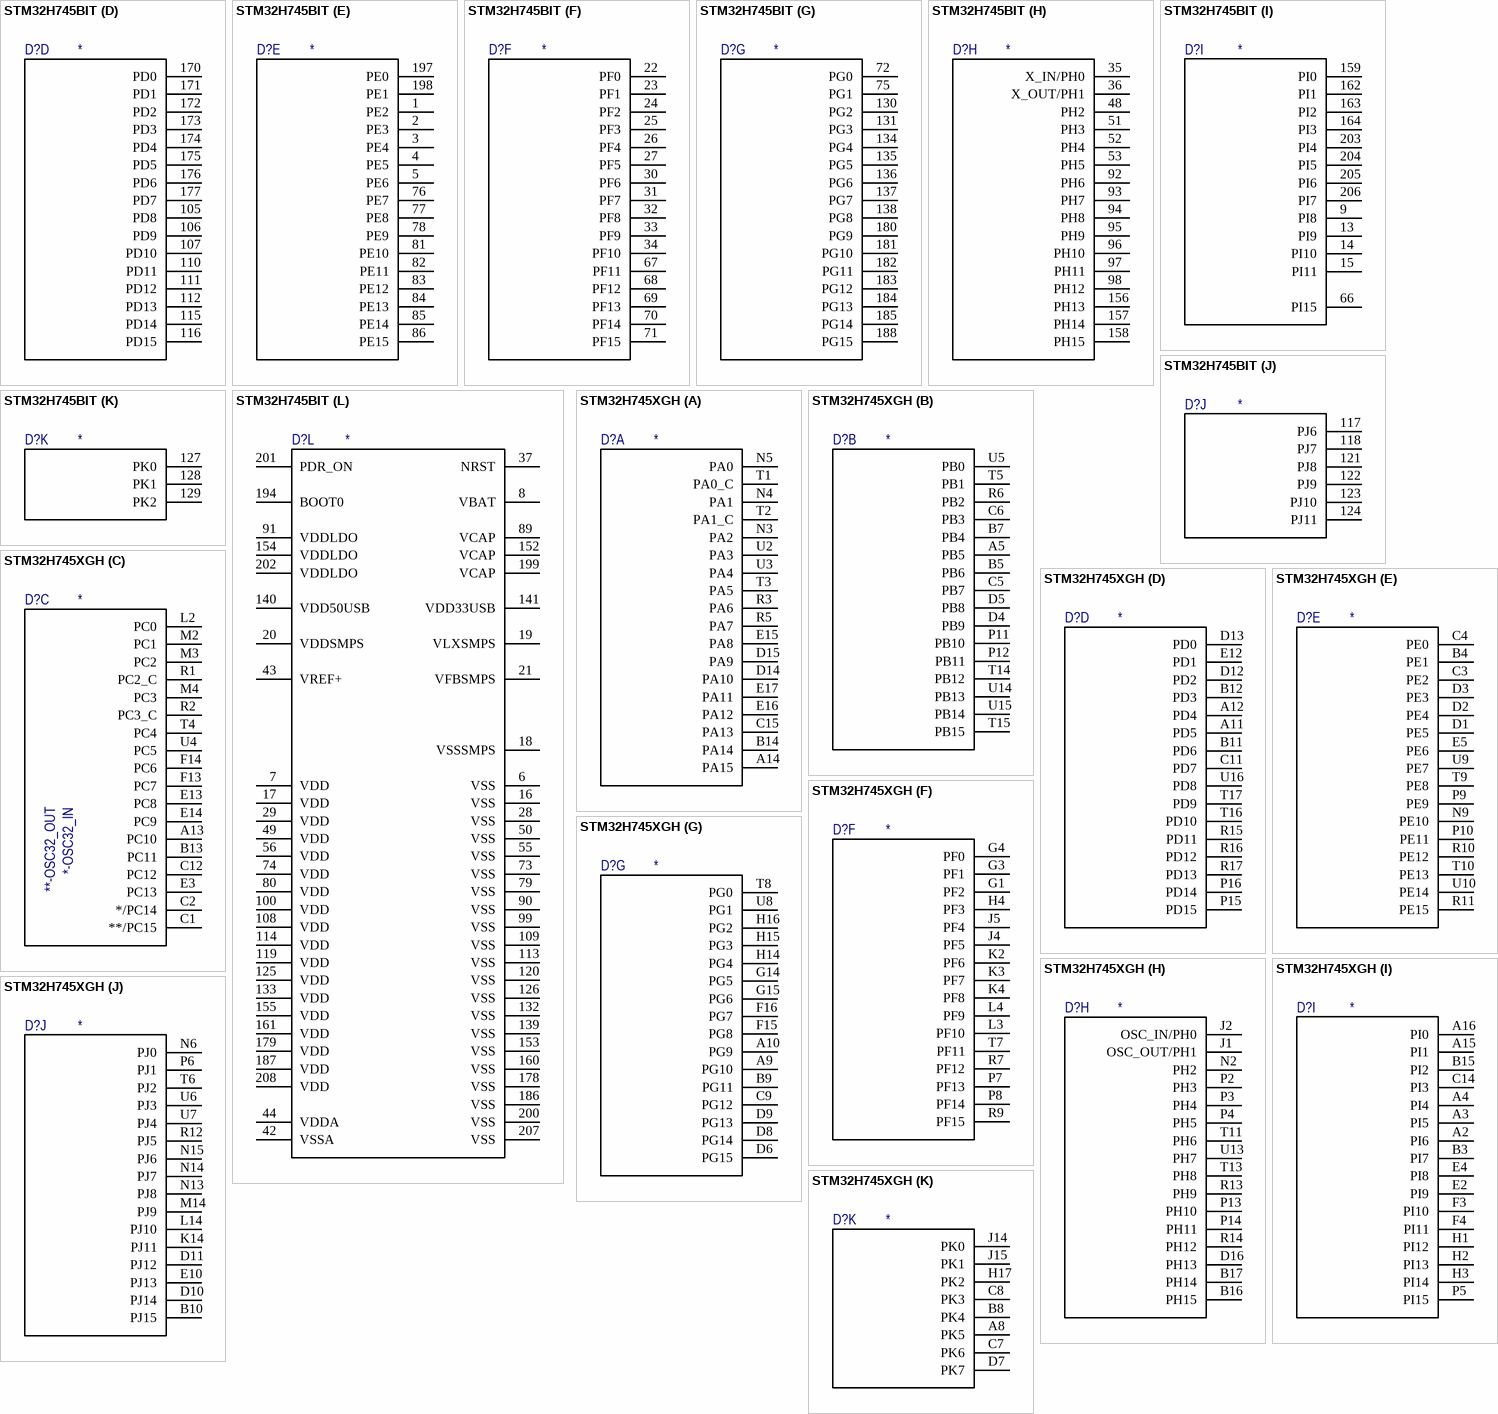
[diagram p11: symbols STM32H745BIT to STM32H745XGH]

## STM32H745BIT
designator D?
Интегральная микросхема; Manufacturer: *; Part Number: *
part A pins: 45 PA0, 46 PA1, 47 PA2, 54 PA3, 57 PA4, 58 PA5, 59 PA6, 60 PA7, 146 PA8, 147 PA9, 148 PA10, 149 PA11, 150 PA12, 151 PA13, 165 PA14, 166 PA15
part B pins: 63 PB0, 64 PB1, 65 PB2, 87 PB10, 88 PB11, 101 PB12, 102 PB13, 103 PB14, 104 PB15, 189 PB3, 190 PB4, 191 PB5, 192 PB6, 193 PB7, 195 PB8, 196 PB9
part C pins: 10 PC13, 11 */PC14, 12 **/PC15, 38 PC0, 39 PC1, 40 PC2_C, 41 PC3_C, 61 PC4, 62 PC5, 142 PC6, 143 PC7, 144 PC8, 145 PC9, 167 PC10, 168 PC11, 169 PC12
part D pins: 105 PD8, 106 PD9, 107 PD10, 110 PD11, 111 PD12, 112 PD13, 115 PD14, 116 PD15, 170 PD0, 171 PD1, 172 PD2, 173 PD3, 174 PD4, 175 PD5, 176 PD6, 177 PD7
part E pins: 1 PE2, 2 PE3, 3 PE4, 4 PE5, 5 PE6, 76 PE7, 77 PE8, 78 PE9, 81 PE10, 82 PE11, 83 PE12, 84 PE13, 85 PE14, 86 PE15, 197 PE0, 198 PE1
part F pins: 22 PF0, 23 PF1, 24 PF2, 25 PF3, 26 PF4, 27 PF5, 30 PF6, 31 PF7, 32 PF8, 33 PF9, 34 PF10, 67 PF11, 68 PF12, 69 PF13, 70 PF14, 71 PF15
part G pins: 72 PG0, 75 PG1, 130 PG2, 131 PG3, 134 PG4, 135 PG5, 136 PG6, 137 PG7, 138 PG8, 180 PG9, 181 PG10, 182 PG11, 183 PG12, 184 PG13, 185 PG14, 188 PG15
part H pins: 35 X_IN/PH0, 36 X_OUT/PH1, 48 PH2, 51 PH3, 52 PH4, 53 PH5, 92 PH6, 93 PH7, 94 PH8, 95 PH9, 96 PH10, 97 PH11, 98 PH12, 156 PH13, 157 PH14, 158 PH15
part I pins: 9 PI8, 13 PI9, 14 PI10, 15 PI11, 66 PI15, 159 PI0, 162 PI1, 163 PI2, 164 PI3, 203 PI4, 204 PI5, 205 PI6, 206 PI7
part J pins: 117 PJ6, 118 PJ7, 121 PJ8, 122 PJ9, 123 PJ10, 124 PJ11
part K pins: 127 PK0, 128 PK1, 129 PK2
part L pins: 6 VSS, 7 VDD, 8 VBAT, 16 VSS, 17 VDD, 18 VSSSMPS, 19 VLXSMPS, 20 VDDSMPS, 21 VFBSMPS, 28 VSS, 29 VDD, 37 NRST, 42 VSSA, 43 VREF+, 44 VDDA, 49 VDD, 50 VSS, 55 VSS, 56 VDD, 73 VSS, 74 VDD, 79 VSS, 80 VDD, 89 VCAP, 90 VSS, 91 VDDLDO, 99 VSS, 100 VDD, 108 VDD, 109 VSS, 113 VSS, 114 VDD, 119 VDD, 120 VSS, 125 VDD, 126 VSS, 132 VSS, 133 VDD, 139 VSS, 140 VDD50USB, 141 VDD33USB, 152 VCAP, 153 VSS, 154 VDDLDO, 155 VDD, 160 VSS, 161 VDD, 178 VSS, 179 VDD, 186 VSS, 187 VDD, 194 BOOT0, 199 VCAP, 200 VSS, 201 PDR_ON, 202 VDDLDO, 207 VSS, 208 VDD
part C text: *-OSC32_IN; **-OSC32_OUT

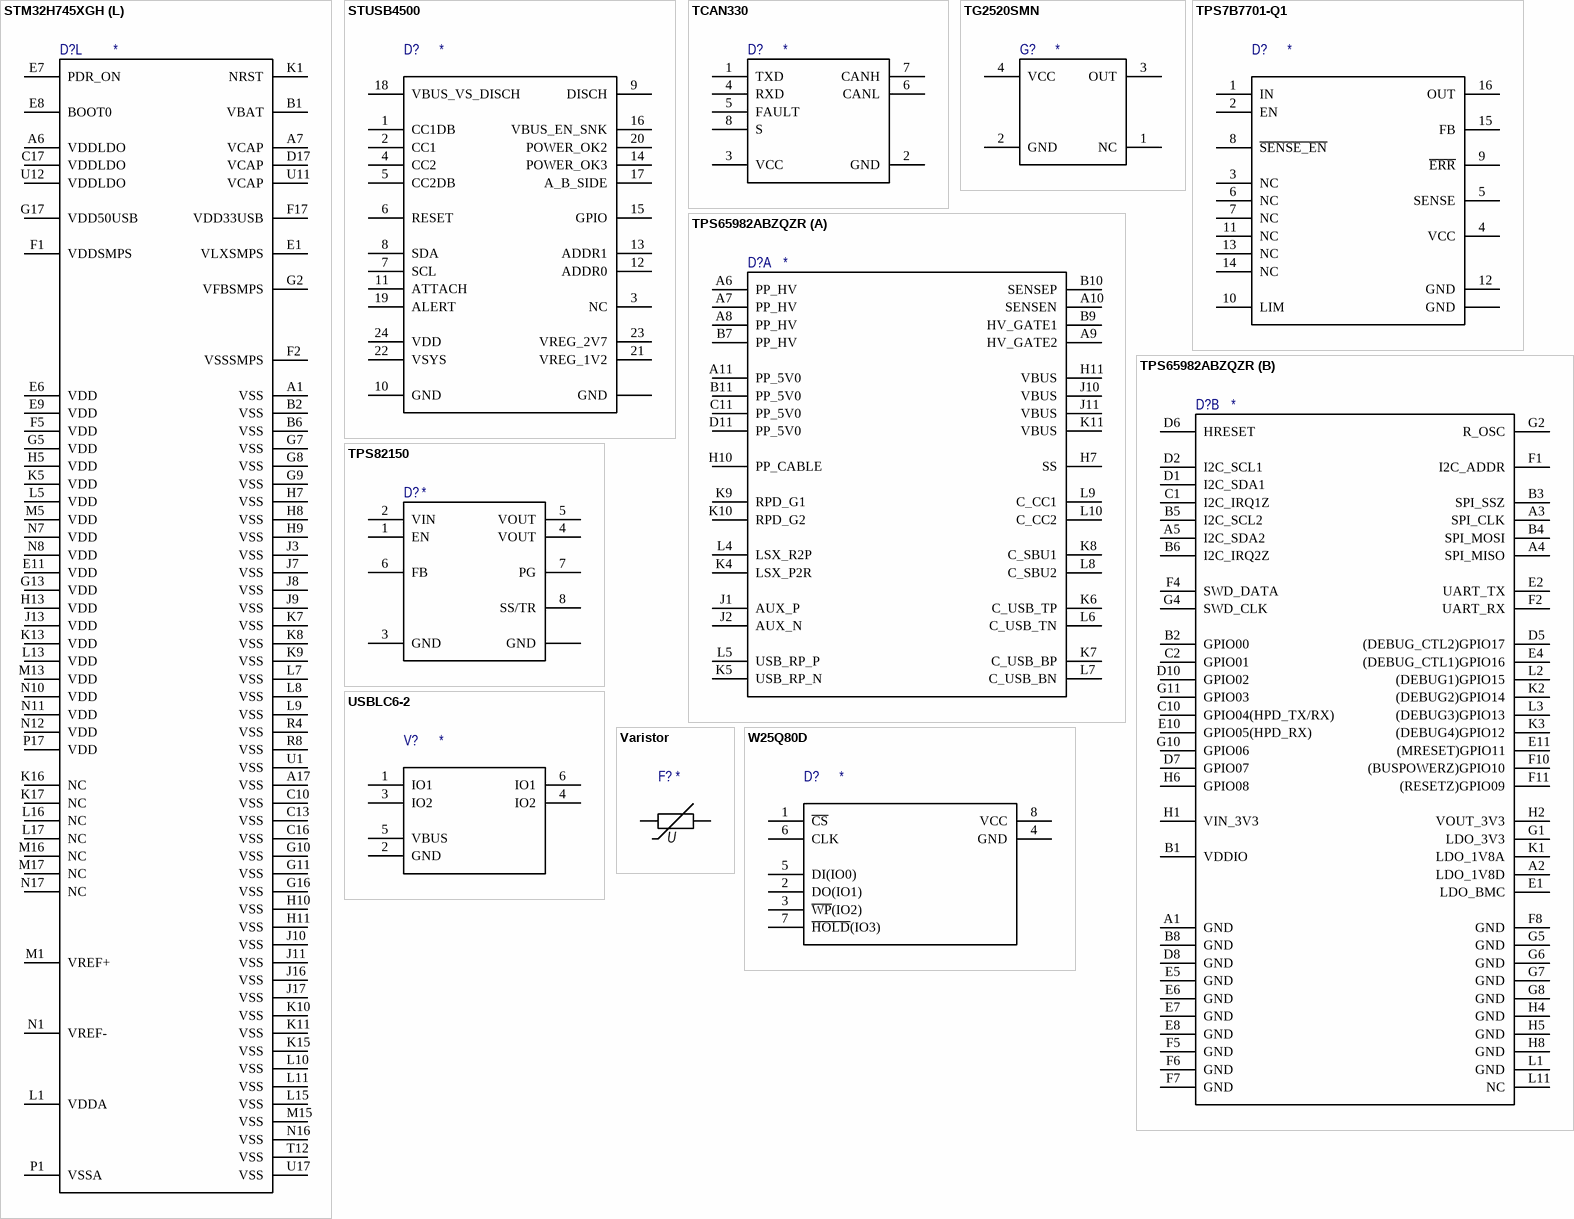
[diagram p12: symbols STM32H745XGH to W25Q80D]

## STM32H745XGH
designator D?
Интегральная микросхема; Manufacturer: *; Part Number: *
part A pins: A14 PA15, B14 PA14, C15 PA13, D14 PA10, D15 PA9, E15 PA8, E16 PA12, E17 PA11, N3 PA2, N4 PA1, N5 PA0, R3 PA6, R5 PA7, T1 PA0_C, T2 PA1_C, T3 PA5, U2 PA3, U3 PA4
part B pins: A5 PB5, B5 PB6, B7 PB4, C5 PB7, C6 PB3, D4 PB9, D5 PB8, P11 PB10, P12 PB11, R6 PB2, T5 PB1, T14 PB12, T15 PB15, U5 PB0, U14 PB13, U15 PB14
part C pins: A13 PC10, B13 PC11, C1 **/PC15, C2 */PC14, C12 PC12, E3 PC13, E13 PC8, E14 PC9, F13 PC7, F14 PC6, L2 PC0, M2 PC1, M3 PC2, M4 PC3, R1 PC2_C, R2 PC3_C, T4 PC4, U4 PC5
part D pins: A11 PD5, A12 PD4, B11 PD6, B12 PD3, C11 PD7, D12 PD2, D13 PD0, E12 PD1, P15 PD15, P16 PD14, R15 PD11, R16 PD12, R17 PD13, T16 PD10, T17 PD9, U16 PD8
part E pins: B4 PE1, C3 PE2, C4 PE0, D1 PE5, D2 PE4, D3 PE3, E5 PE6, N9 PE10, P9 PE9, P10 PE11, R10 PE12, R11 PE15, T9 PE8, T10 PE13, U9 PE7, U10 PE14
part F pins: G1 PF2, G3 PF1, G4 PF0, H4 PF3, J4 PF5, J5 PF4, K2 PF6, K3 PF7, K4 PF8, L3 PF10, L4 PF9, P7 PF13, P8 PF14, R7 PF12, R9 PF15, T7 PF11
part G pins: A9 PG10, A10 PG9, B9 PG11, C9 PG12, D6 PG15, D8 PG14, D9 PG13, F15 PG8, F16 PG7, G14 PG5, G15 PG6, H14 PG4, H15 PG3, H16 PG2, T8 PG0, U8 PG1
part H pins: B16 PH15, B17 PH14, D16 PH13, J1 OSC_OUT/PH1, J2 OSC_IN/PH0, N2 PH2, P2 PH3, P3 PH4, P4 PH5, P13 PH10, P14 PH11, R13 PH9, R14 PH12, T11 PH6, T13 PH8, U13 PH7
part I pins: A2 PI6, A3 PI5, A4 PI4, A15 PI1, A16 PI0, B3 PI7, B15 PI2, C14 PI3, E2 PI9, E4 PI8, F3 PI10, F4 PI11, H1 PI12, H2 PI13, H3 PI14, P5 PI15
part J pins: B10 PJ15, D10 PJ14, D11 PJ12, E10 PJ13, K14 PJ11, L14 PJ10, M14 PJ9, N6 PJ0, N13 PJ8, N14 PJ7, N15 PJ6, P6 PJ1, R12 PJ5, T6 PJ2, U6 PJ3, U7 PJ4
part K pins: A8 PK5, B8 PK4, C7 PK6, C8 PK3, D7 PK7, H17 PK2, J14 PK0, J15 PK1
part L pins: A1 VSS, A6 VDDLDO, A7 VCAP, A17 VSS, B1 VBAT, B2 VSS, B6 VSS, C10 VSS, C13 VSS, C16 VSS, C17 VDDLDO, D17 VCAP, E1 VLXSMPS, E6 VDD, E7 PDR_ON, E8 BOOT0, E9 VDD, E11 VDD, F1 VDDSMPS, F2 VSSSMPS, F5 VDD, F17 VDD33USB, G2 VFBSMPS, G5 VDD, G7 VSS, G8 VSS, G9 VSS, G10 VSS, G11 VSS, G13 VDD, G16 VSS, G17 VDD50USB, H5 VDD, H7 VSS, H8 VSS, H9 VSS, H10 VSS, H11 VSS, H13 VDD, J3 VSS, J7 VSS, J8 VSS, J9 VSS, J10 VSS, J11 VSS, J13 VDD, J16 VSS, J17 VSS, K1 NRST, K5 VDD, K7 VSS, K8 VSS, K9 VSS, K10 VSS, K11 VSS, K13 VDD, K15 VSS, K16 NC, K17 NC, L1 VDDA, L5 VDD, L7 VSS, L8 VSS, L9 VSS, L10 VSS, L11 VSS, L13 VDD, L15 VSS, L16 NC, L17 NC, M1 VREF+, M5 VDD, M13 VDD, M15 VSS, M16 NC, M17 NC, N1 VREF-, N7 VDD, N8 VDD, N10 VDD, N11 VDD, N12 VDD, N16 VSS, N17 NC, P1 VSSA, P17 VDD, R4 VSS, R8 VSS, T12 VSS, U1 VSS, U11 VCAP, U12 VDDLDO, U17 VSS
part C text: *-OSC32_IN; **-OSC32_OUT

## STUSB4500
designator D?
Интегральная микросхема; Manufacturer: *; Part Number: *
pins: 1 CC1DB, 2 CC1, 3 NC, 4 CC2, 5 CC2DB, 6 RESET, 7 SCL, 8 SDA, 9 DISCH, 10 GND, 11 ATTACH, 12 ADDR0, 13 ADDR1, 14 POWER_OK3, 15 GPIO, 16 VBUS_EN_SNK, 17 A_B_SIDE, 18 VBUS_VS_DISCH, 19 ALERT, 20 POWER_OK2, 21 VREG_1V2, 22 VSYS, 23 VREG_2V7, 24 VDD, PAD GND

## TCAN330
designator D?
Интегральная микросхема; Manufacturer: *; Part Number: *
pins: 1 TXD, 2 GND, 3 VCC, 4 RXD, 5 FAULT, 6 CANL, 7 CANH, 8 S

## TG2520SMN
designator G?
Генератор тактового сигнала; Manufacturer: *; Part Number: *
pins: 1 NC, 2 GND, 3 OUT, 4 VCC

## TPS7B7701-Q1
designator D?
Интегральная микросхема; Manufacturer: *; Part Number: *
pins: 1 IN, 2 EN, 3 NC, 4 VCC, 5 SENSE, 6 NC, 7 NC, 8 ~{SENSE_EN}, 9 ~{ERR}, 10 LIM, 11 NC, 12 GND, 13 NC, 14 NC, 15 FB, 16 OUT, PAD GND

## TPS65982ABZQZR
designator D?
Интегральная микросхема; Manufacturer: *; Part Number: *
part A pins: A6 PP_HV, A7 PP_HV, A8 PP_HV, A9 HV_GATE2, A10 SENSEN, A11 PP_5V0, B7 PP_HV, B9 HV_GATE1, B10 SENSEP, B11 PP_5V0, C11 PP_5V0, D11 PP_5V0, H7 SS, H10 PP_CABLE, H11 VBUS, J1 AUX_P, J2 AUX_N, J10 VBUS, J11 VBUS, K4 LSX_P2R, K5 USB_RP_N, K6 C_USB_TP, K7 C_USB_BP, K8 C_SBU1, K9 RPD_G1, K10 RPD_G2, K11 VBUS, L4 LSX_R2P, L5 USB_RP_P, L6 C_USB_TN, L7 C_USB_BN, L8 C_SBU2, L9 C_CC1, L10 C_CC2
part B pins: A1 GND, A2 LDO_1V8D, A3 SPI_CLK, A4 SPI_MISO, A5 I2C_SDA2, B1 VDDIO, B2 GPIO00, B3 SPI_SSZ, B4 SPI_MOSI, B5 I2C_SCL2, B6 I2C_IRQ2Z, B8 GND, C1 I2C_IRQ1Z, C2 GPIO01, C10 GPIO04(HPD_TX/RX), D1 I2C_SDA1, D2 I2C_SCL1, D5 (DEBUG_CTL2)GPIO17, D6 HRESET, D7 GPIO07, D8 GND, D10 GPIO02, E1 LDO_BMC, E2 UART_TX, E4 (DEBUG_CTL1)GPIO16, E5 GND, E6 GND, E7 GND, E8 GND, E10 GPIO05(HPD_RX), E11 (MRESET)GPIO11, F1 I2C_ADDR, F2 UART_RX, F4 SWD_DATA, F5 GND, F6 GND, F7 GND, F8 GND, F10 (BUSPOWERZ)GPIO10, F11 (RESETZ)GPIO09, G1 LDO_3V3, G2 R_OSC, G4 SWD_CLK, G5 GND, G6 GND, G7 GND, G8 GND, G10 GPIO06, G11 GPIO03, H1 VIN_3V3, H2 VOUT_3V3, H4 GND, H5 GND, H6 GPIO08, H8 GND, K1 LDO_1V8A, K2 (DEBUG2)GPIO14, K3 (DEBUG4)GPIO12, L1 GND, L2 (DEBUG1)GPIO15, L3 (DEBUG3)GPIO13, L11 NC

## TPS82150
designator D?
Интегральная микросхема; Manufacturer: *; Part Number: *
pins: 1 EN, 2 VIN, 3 GND, 4 VOUT, 5 VOUT, 6 FB, 7 PG, 8 SS/TR, PAD GND

## USBLC6-2
designator V?
ESD защита USB; Manufacturer: *; Part Number: *
pins: 1 IO1, 2 GND, 3 IO2, 4 IO2, 5 VBUS, 6 IO1

## Varistor
designator F?
Варистор; Manufacturer: *; Part Number: *
pins: 1, 2
text: U

## W25Q80D
designator D?
Интегральная микросхема; Manufacturer: *; Part Number: *
pins: 1 ~{CS}, 2 DO(IO1), 3 ~{WP}(IO2), 4 GND, 5 DI(IO0), 6 CLK, 7 ~{HOLD}(IO3), 8 VCC

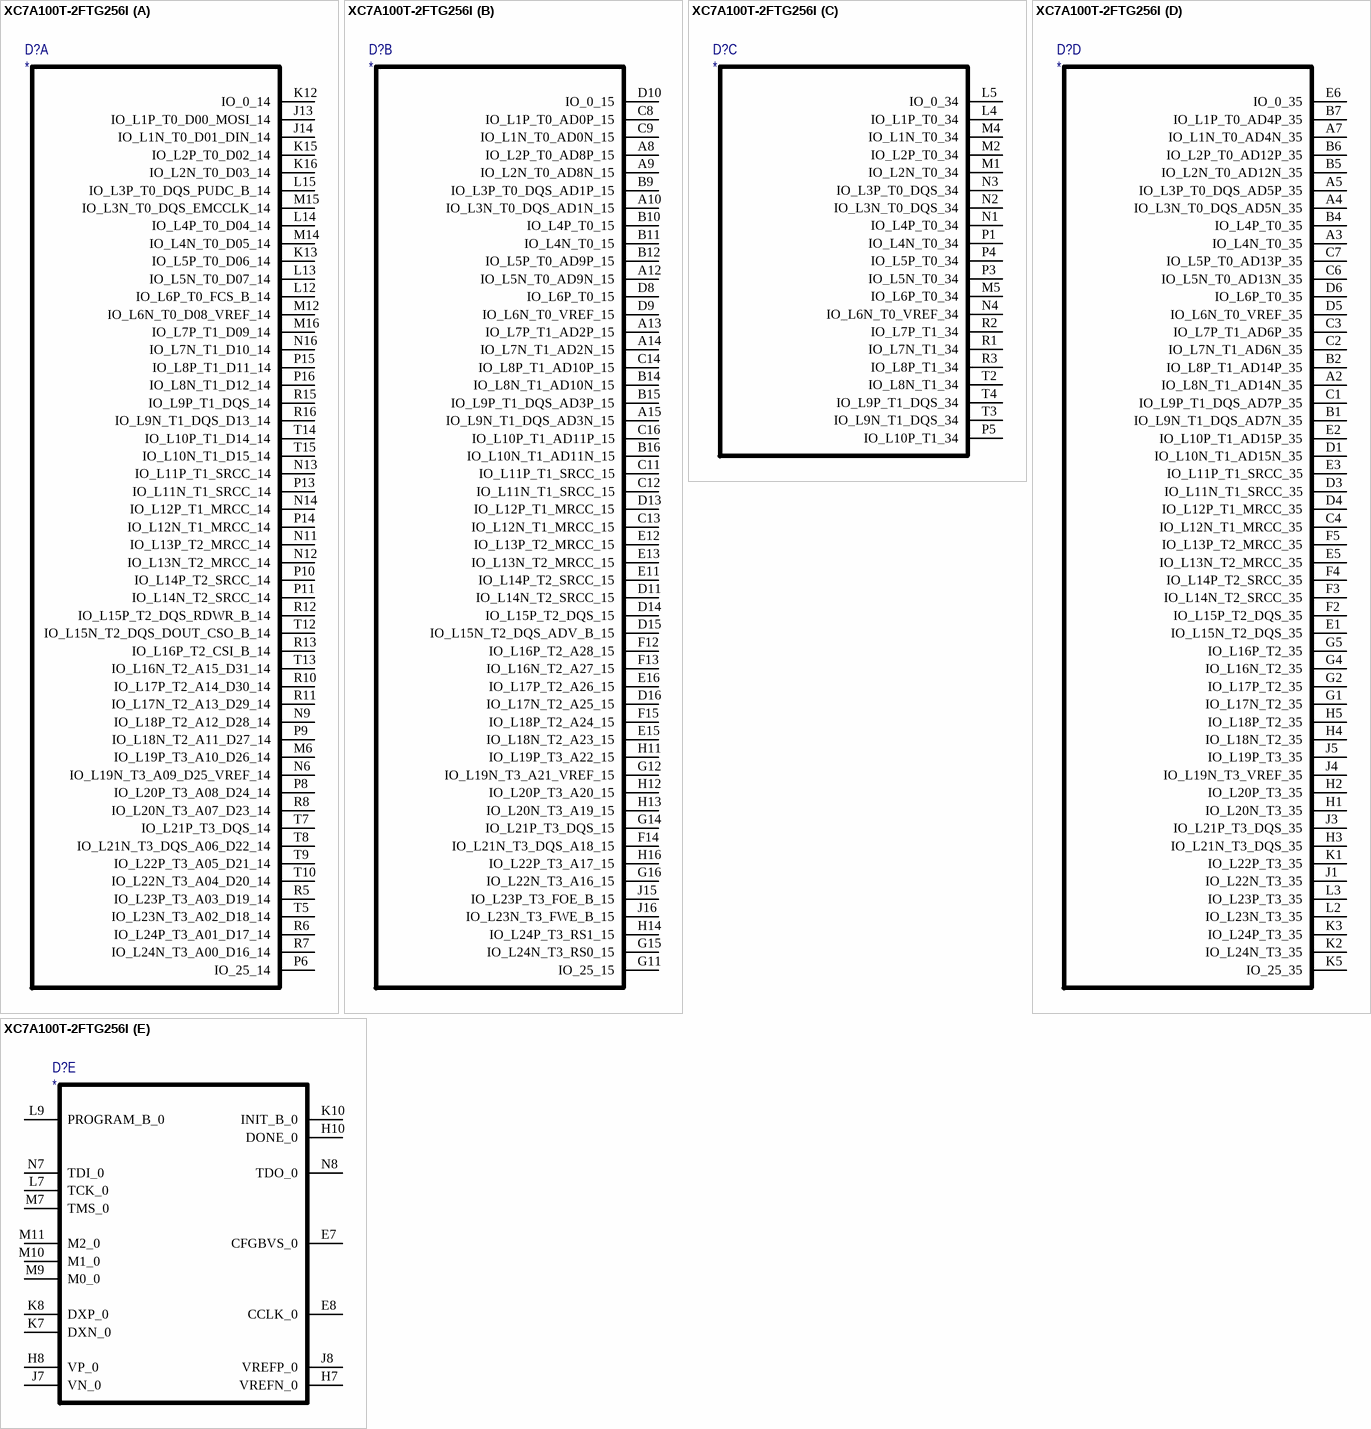
[diagram p13: symbol XC7A100T-2FTG256I]

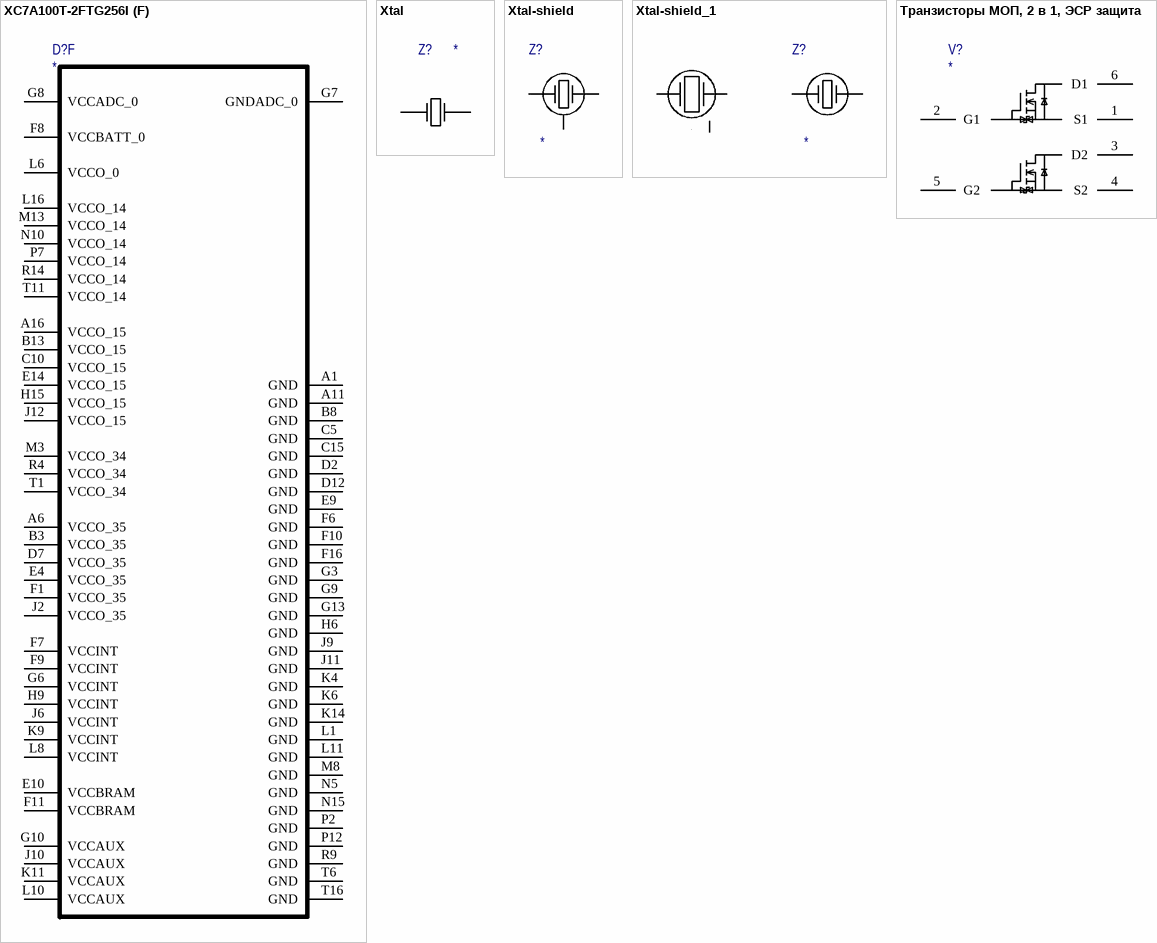
[diagram p14: symbols XC7A100T-2FTG256I to Транзисторы МОП, 2 в 1, ЭСР защита]

## XC7A100T-2FTG256I
designator D?
Интегральная микросхема; Manufacturer: *; Part Number: *
part A pins: J13 IO_L1P_T0_D00_MOSI_14, J14 IO_L1N_T0_D01_DIN_14, K12 IO_0_14, K13 IO_L5P_T0_D06_14, K15 IO_L2P_T0_D02_14, K16 IO_L2N_T0_D03_14, L12 IO_L6P_T0_FCS_B_14, L13 IO_L5N_T0_D07_14, L14 IO_L4P_T0_D04_14, L15 IO_L3P_T0_DQS_PUDC_B_14, M6 IO_L19P_T3_A10_D26_14, M12 IO_L6N_T0_D08_VREF_14, M14 IO_L4N_T0_D05_14, M15 IO_L3N_T0_DQS_EMCCLK_14, M16 IO_L7P_T1_D09_14, N6 IO_L19N_T3_A09_D25_VREF_14, N9 IO_L18P_T2_A12_D28_14, N11 IO_L13P_T2_MRCC_14, N12 IO_L13N_T2_MRCC_14, N13 IO_L11P_T1_SRCC_14, N14 IO_L12P_T1_MRCC_14, N16 IO_L7N_T1_D10_14, P6 IO_25_14, P8 IO_L20P_T3_A08_D24_14, P9 IO_L18N_T2_A11_D27_14, P10 IO_L14P_T2_SRCC_14, P11 IO_L14N_T2_SRCC_14, P13 IO_L11N_T1_SRCC_14, P14 IO_L12N_T1_MRCC_14, P15 IO_L8P_T1_D11_14, P16 IO_L8N_T1_D12_14, R5 IO_L23P_T3_A03_D19_14, R6 IO_L24P_T3_A01_D17_14, R7 IO_L24N_T3_A00_D16_14, R8 IO_L20N_T3_A07_D23_14, R10 IO_L17P_T2_A14_D30_14, R11 IO_L17N_T2_A13_D29_14, R12 IO_L15P_T2_DQS_RDWR_B_14, R13 IO_L16P_T2_CSI_B_14, R15 IO_L9P_T1_DQS_14, R16 IO_L9N_T1_DQS_D13_14, T5 IO_L23N_T3_A02_D18_14, T7 IO_L21P_T3_DQS_14, T8 IO_L21N_T3_DQS_A06_D22_14, T9 IO_L22P_T3_A05_D21_14, T10 IO_L22N_T3_A04_D20_14, T12 IO_L15N_T2_DQS_DOUT_CSO_B_14, T13 IO_L16N_T2_A15_D31_14, T14 IO_L10P_T1_D14_14, T15 IO_L10N_T1_D15_14
part B pins: A8 IO_L2P_T0_AD8P_15, A9 IO_L2N_T0_AD8N_15, A10 IO_L3N_T0_DQS_AD1N_15, A12 IO_L5N_T0_AD9N_15, A13 IO_L7P_T1_AD2P_15, A14 IO_L7N_T1_AD2N_15, A15 IO_L9N_T1_DQS_AD3N_15, B9 IO_L3P_T0_DQS_AD1P_15, B10 IO_L4P_T0_15, B11 IO_L4N_T0_15, B12 IO_L5P_T0_AD9P_15, B14 IO_L8N_T1_AD10N_15, B15 IO_L9P_T1_DQS_AD3P_15, B16 IO_L10N_T1_AD11N_15, C8 IO_L1P_T0_AD0P_15, C9 IO_L1N_T0_AD0N_15, C11 IO_L11P_T1_SRCC_15, C12 IO_L11N_T1_SRCC_15, C13 IO_L12N_T1_MRCC_15, C14 IO_L8P_T1_AD10P_15, C16 IO_L10P_T1_AD11P_15, D8 IO_L6P_T0_15, D9 IO_L6N_T0_VREF_15, D10 IO_0_15, D11 IO_L14N_T2_SRCC_15, D13 IO_L12P_T1_MRCC_15, D14 IO_L15P_T2_DQS_15, D15 IO_L15N_T2_DQS_ADV_B_15, D16 IO_L17N_T2_A25_15, E11 IO_L14P_T2_SRCC_15, E12 IO_L13P_T2_MRCC_15, E13 IO_L13N_T2_MRCC_15, E15 IO_L18N_T2_A23_15, E16 IO_L17P_T2_A26_15, F12 IO_L16P_T2_A28_15, F13 IO_L16N_T2_A27_15, F14 IO_L21N_T3_DQS_A18_15, F15 IO_L18P_T2_A24_15, G11 IO_25_15, G12 IO_L19N_T3_A21_VREF_15, G14 IO_L21P_T3_DQS_15, G15 IO_L24N_T3_RS0_15, G16 IO_L22N_T3_A16_15, H11 IO_L19P_T3_A22_15, H12 IO_L20P_T3_A20_15, H13 IO_L20N_T3_A19_15, H14 IO_L24P_T3_RS1_15, H16 IO_L22P_T3_A17_15, J15 IO_L23P_T3_FOE_B_15, J16 IO_L23N_T3_FWE_B_15
part C pins: L4 IO_L1P_T0_34, L5 IO_0_34, M1 IO_L2N_T0_34, M2 IO_L2P_T0_34, M4 IO_L1N_T0_34, M5 IO_L6P_T0_34, N1 IO_L4P_T0_34, N2 IO_L3N_T0_DQS_34, N3 IO_L3P_T0_DQS_34, N4 IO_L6N_T0_VREF_34, P1 IO_L4N_T0_34, P3 IO_L5N_T0_34, P4 IO_L5P_T0_34, P5 IO_L10P_T1_34, R1 IO_L7N_T1_34, R2 IO_L7P_T1_34, R3 IO_L8P_T1_34, T2 IO_L8N_T1_34, T3 IO_L9N_T1_DQS_34, T4 IO_L9P_T1_DQS_34
part D pins: A2 IO_L8N_T1_AD14N_35, A3 IO_L4N_T0_35, A4 IO_L3N_T0_DQS_AD5N_35, A5 IO_L3P_T0_DQS_AD5P_35, A7 IO_L1N_T0_AD4N_35, B1 IO_L9N_T1_DQS_AD7N_35, B2 IO_L8P_T1_AD14P_35, B4 IO_L4P_T0_35, B5 IO_L2N_T0_AD12N_35, B6 IO_L2P_T0_AD12P_35, B7 IO_L1P_T0_AD4P_35, C1 IO_L9P_T1_DQS_AD7P_35, C2 IO_L7N_T1_AD6N_35, C3 IO_L7P_T1_AD6P_35, C4 IO_L12N_T1_MRCC_35, C6 IO_L5N_T0_AD13N_35, C7 IO_L5P_T0_AD13P_35, D1 IO_L10N_T1_AD15N_35, D3 IO_L11N_T1_SRCC_35, D4 IO_L12P_T1_MRCC_35, D5 IO_L6N_T0_VREF_35, D6 IO_L6P_T0_35, E1 IO_L15N_T2_DQS_35, E2 IO_L10P_T1_AD15P_35, E3 IO_L11P_T1_SRCC_35, E5 IO_L13N_T2_MRCC_35, E6 IO_0_35, F2 IO_L15P_T2_DQS_35, F3 IO_L14N_T2_SRCC_35, F4 IO_L14P_T2_SRCC_35, F5 IO_L13P_T2_MRCC_35, G1 IO_L17N_T2_35, G2 IO_L17P_T2_35, G4 IO_L16N_T2_35, G5 IO_L16P_T2_35, H1 IO_L20N_T3_35, H2 IO_L20P_T3_35, H3 IO_L21N_T3_DQS_35, H4 IO_L18N_T2_35, H5 IO_L18P_T2_35, J1 IO_L22N_T3_35, J3 IO_L21P_T3_DQS_35, J4 IO_L19N_T3_VREF_35, J5 IO_L19P_T3_35, K1 IO_L22P_T3_35, K2 IO_L24N_T3_35, K3 IO_L24P_T3_35, K5 IO_25_35, L2 IO_L23N_T3_35, L3 IO_L23P_T3_35
part E pins: E7 CFGBVS_0, E8 CCLK_0, H7 VREFN_0, H8 VP_0, H10 DONE_0, J7 VN_0, J8 VREFP_0, K7 DXN_0, K8 DXP_0, K10 INIT_B_0, L7 TCK_0, L9 PROGRAM_B_0, M7 TMS_0, M9 M0_0, M10 M1_0, M11 M2_0, N7 TDI_0, N8 TDO_0
part F pins: A1 GND, A6 VCCO_35, A11 GND, A16 VCCO_15, B3 VCCO_35, B8 GND, B13 VCCO_15, C5 GND, C10 VCCO_15, C15 GND, D2 GND, D7 VCCO_35, D12 GND, E4 VCCO_35, E9 GND, E10 VCCBRAM, E14 VCCO_15, F1 VCCO_35, F6 GND, F7 VCCINT, F8 VCCBATT_0, F9 VCCINT, F10 GND, F11 VCCBRAM, F16 GND, G3 GND, G6 VCCINT, G7 GNDADC_0, G8 VCCADC_0, G9 GND, G10 VCCAUX, G13 GND, H6 GND, H9 VCCINT, H15 VCCO_15, J2 VCCO_35, J6 VCCINT, J9 GND, J10 VCCAUX, J11 GND, J12 VCCO_15, K4 GND, K6 GND, K9 VCCINT, K11 VCCAUX, K14 GND, L1 GND, L6 VCCO_0, L8 VCCINT, L10 VCCAUX, L11 GND, L16 VCCO_14, M3 VCCO_34, M8 GND, M13 VCCO_14, N5 GND, N10 VCCO_14, N15 GND, P2 GND, P7 VCCO_14, P12 GND, R4 VCCO_34, R9 GND, R14 VCCO_14, T1 VCCO_34, T6 GND, T11 VCCO_14, T16 GND

## Xtal
designator Z?
Резонатор кварцевый; Value: *; Manufacturer: *; Tolerance: *; Part Number: *
pins: 1, 2

## Xtal-shield
designator Z?
Резонатор кварцевый; Value: *; Manufacturer: *; Tolerance: *; Part Number: *
pins: 1, 2, 3, 4

## Xtal-shield_1
designator Z?
Резонатор кварцевый; Value: *; Manufacturer: *; Tolerance: *; Part Number: *
pins: 1, 1, 2, 3, 3, 4

## Транзисторы МОП, 2 в 1, ЭСР защита
designator V?
Manufacturer: *; Part Number: *
pins: 1 S1, 2 G1, 3 D2, 4 S2, 5 G2, 6 D1